# Altium schematic symbol library dungvh03-CERN_Logic.SchLib: 486 symbols (part 26 of 54)
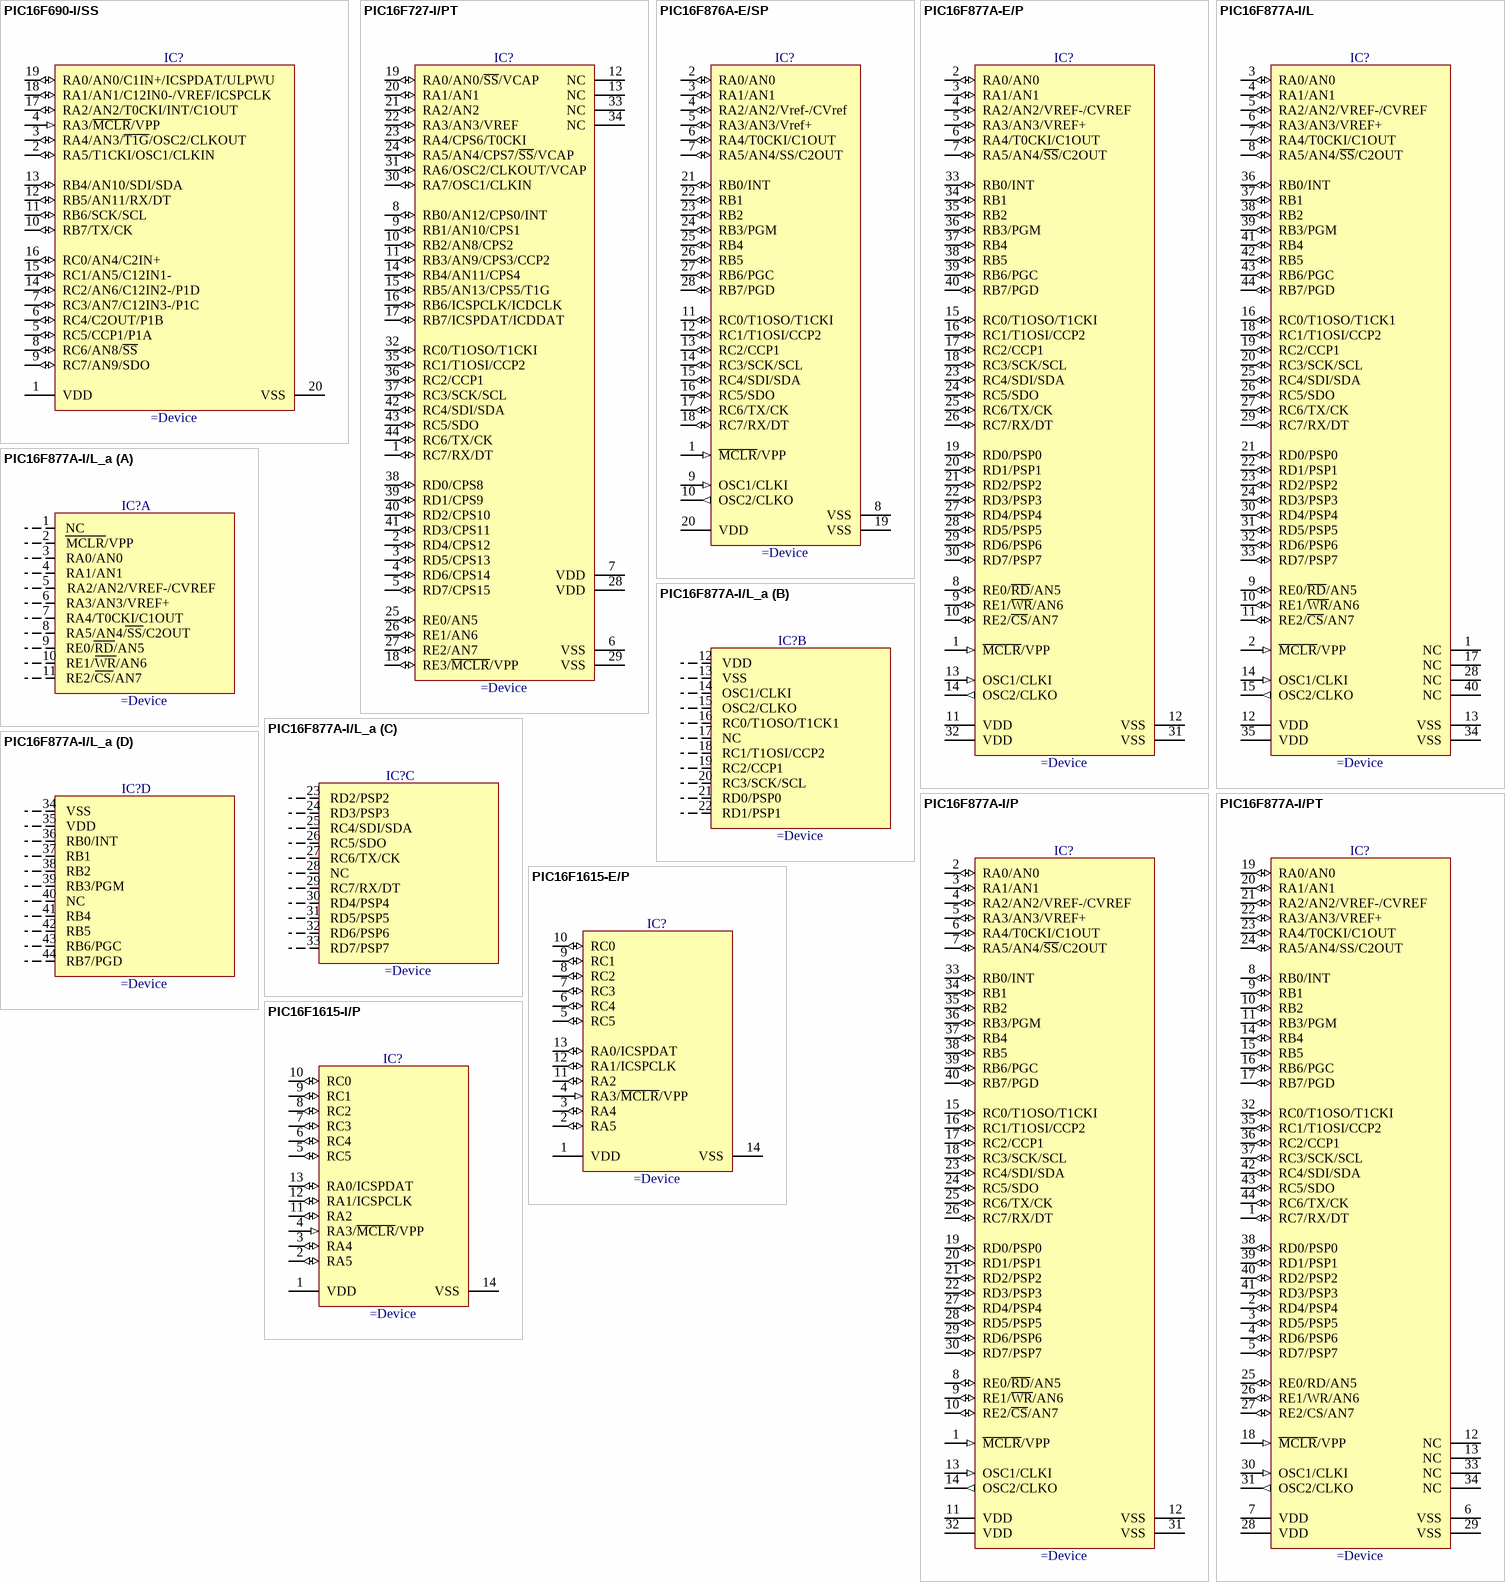
[diagram p286: symbols PIC16F690-I/SS to PIC16F1615-I/P]

## PIC16F877A-I/PT
designator IC?
44-Pin Enhanced Flash Microcontroller
pins: 1 RC7/RX/DT (io), 2 RD4/PSP4 (io), 3 RD5/PSP5 (io), 4 RD6/PSP6 (io), 5 RD7/PSP7 (io), 6 VSS (power), 7 VDD (power), 8 RB0/INT (io), 9 RB1 (io), 10 RB2 (io), 11 RB3/PGM (io), 12 NC, 13 NC, 14 RB4 (io), 15 RB5 (io), 16 RB6/PGC (io), 17 RB7/PGD (io), 18 ~{MCLR}/VPP (in), 19 RA0/AN0 (io), 20 RA1/AN1 (io), 21 RA2/AN2/VREF-/CVREF (io), 22 RA3/AN3/VREF+ (io), 23 RA4/T0CKI/C1OUT (io), 24 RA5/AN4/SS/C2OUT (io), 25 RE0/RD/AN5 (io), 26 RE1/WR/AN6 (io), 27 RE2/CS/AN7 (io), 28 VDD (power), 29 VSS (power), 30 OSC1/CLKI (in), 31 OSC2/CLKO (out), 32 RC0/T1OSO/T1CKI (io), 33 NC, 34 NC, 35 RC1/T1OSI/CCP2 (io), 36 RC2/CCP1 (io), 37 RC3/SCK/SCL (io), 38 RD0/PSP0 (io), 39 RD1/PSP1 (io), 40 RD2/PSP2 (io), 41 RD3/PSP3 (io), 42 RC4/SDI/SDA (io), 43 RC5/SDO (io), 44 RC6/TX/CK (io)

## PIC16F1615-E/P
designator IC?
14 Pins 8-Bit Flash Microcontroller
pins: 1 VDD (power), 2 RA5 (io), 3 RA4 (io), 4 RA3/~{MCLR}/VPP (in), 5 RC5 (io), 6 RC4 (io), 7 RC3 (io), 8 RC2 (io), 9 RC1 (io), 10 RC0 (io), 11 RA2 (io), 12 RA1/ICSPCLK (io), 13 RA0/ICSPDAT (io), 14 VSS (power)

## PIC16F1615-I/P
designator IC?
14 Pins 8-Bit Flash Microcontroller
pins: 1 VDD (power), 2 RA5 (io), 3 RA4 (io), 4 RA3/~{MCLR}/VPP (in), 5 RC5 (io), 6 RC4 (io), 7 RC3 (io), 8 RC2 (io), 9 RC1 (io), 10 RC0 (io), 11 RA2 (io), 12 RA1/ICSPCLK (io), 13 RA0/ICSPDAT (io), 14 VSS (power)

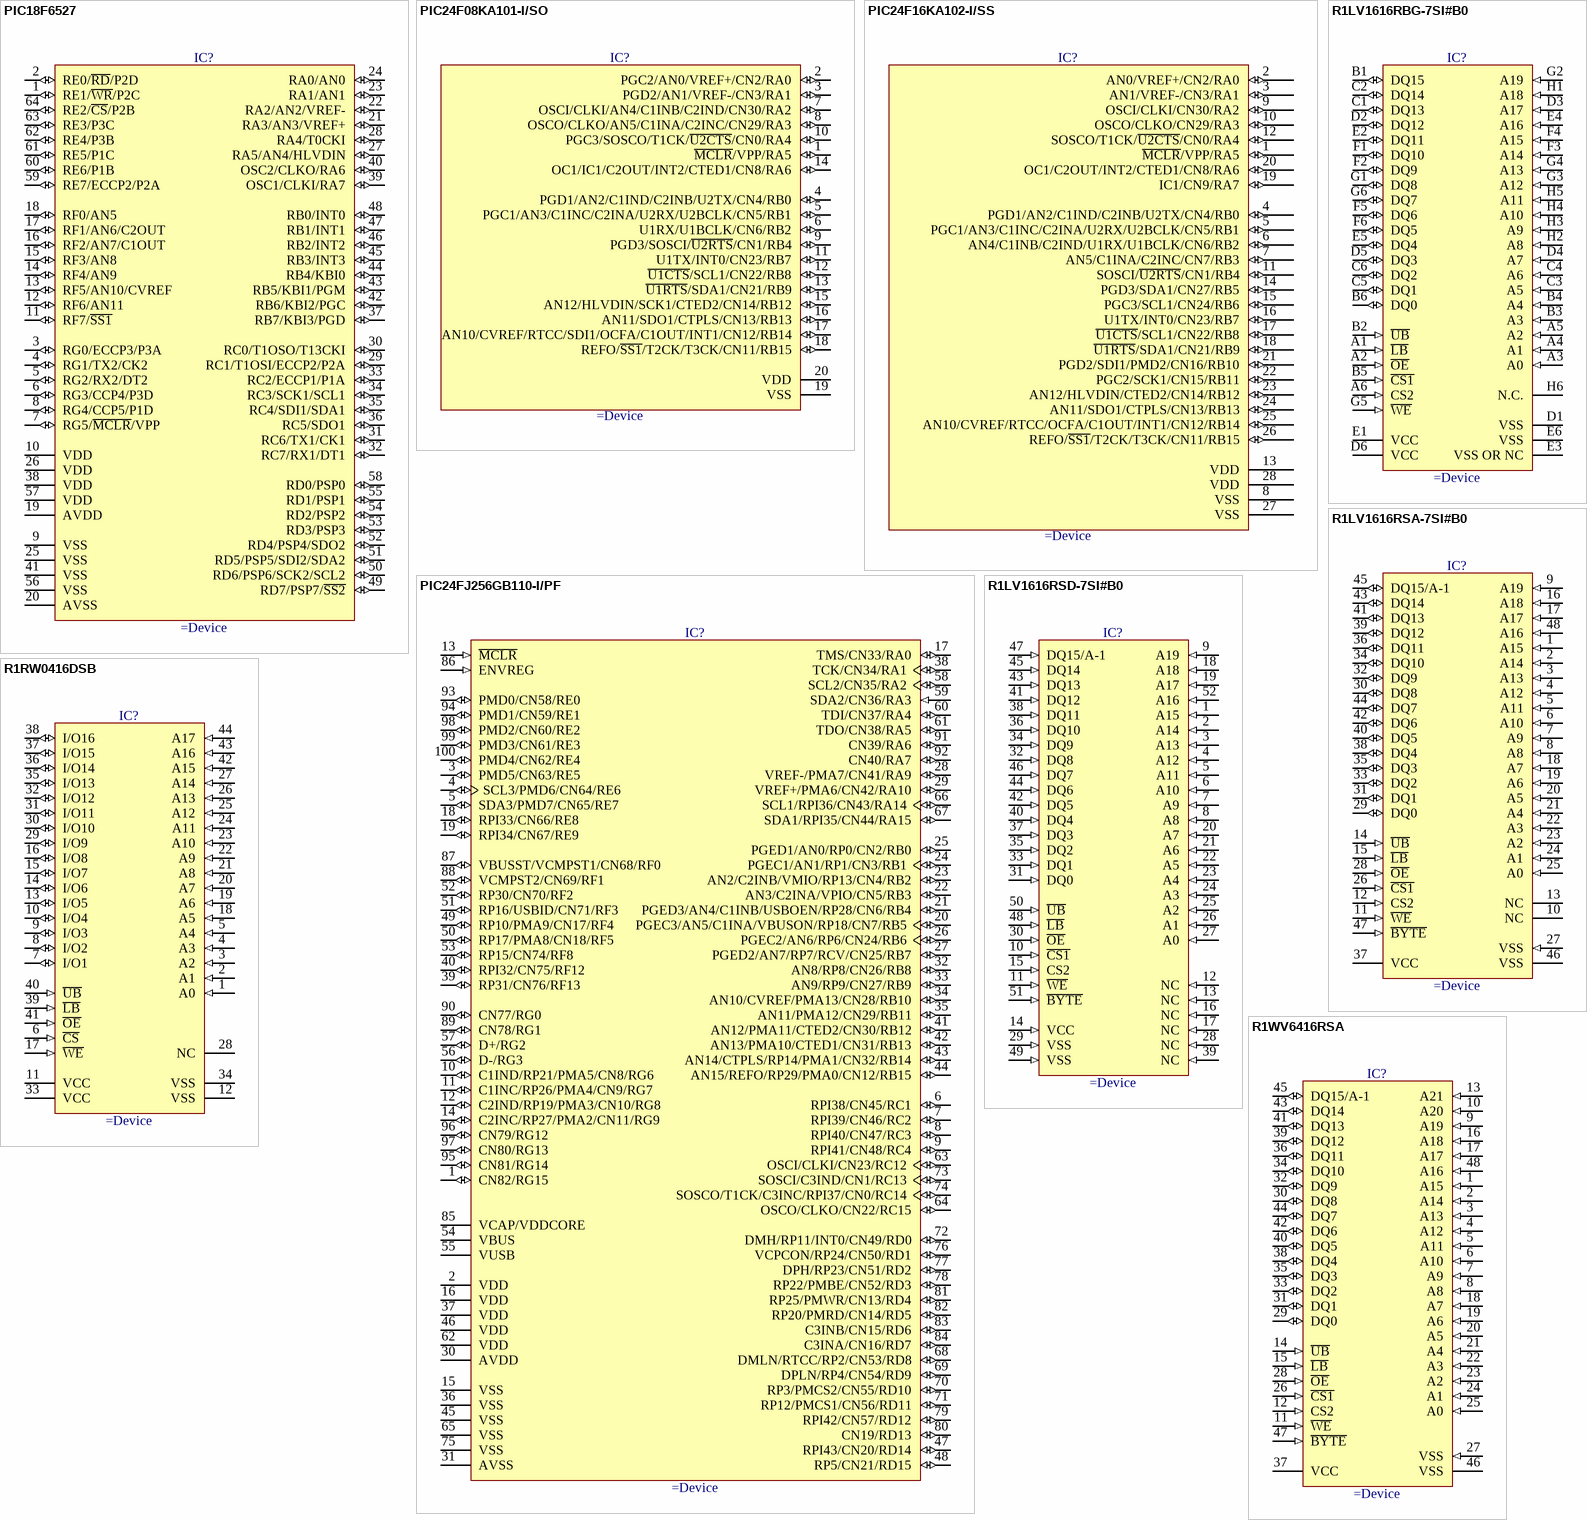
[diagram p114: symbols PIC18F6527 to R1WV6416RSA]

## PIC18F6527
designator IC?
1-Mbit, Enhanced Flash Microcontrollers with 10-Bit A/D and nanoWatt Technology, 64-Pin TQFP (10x10x1.2mm), Industrial Temperature
pins: 1 RE1/~{WR}/P2C (io), 2 RE0/~{RD}/P2D (io), 3 RG0/ECCP3/P3A (io), 4 RG1/TX2/CK2 (io), 5 RG2/RX2/DT2 (io), 6 RG3/CCP4/P3D (io), 7 RG5/~{MCLR}/VPP (io), 8 RG4/CCP5/P1D (io), 9 VSS (power), 10 VDD (power), 11 RF7/~{SS1} (io), 12 RF6/AN11 (io), 13 RF5/AN10/CVREF (io), 14 RF4/AN9 (io), 15 RF3/AN8 (io), 16 RF2/AN7/C1OUT (io), 17 RF1/AN6/C2OUT (io), 18 RF0/AN5 (io), 19 AVDD (power), 20 AVSS (power), 21 RA3/AN3/VREF+ (io), 22 RA2/AN2/VREF- (io), 23 RA1/AN1 (io), 24 RA0/AN0 (io), 25 VSS (power), 26 VDD (power), 27 RA5/AN4/HLVDIN (io), 28 RA4/T0CKI (io), 29 RC1/T1OSI/ECCP2/P2A (io), 30 RC0/T1OSO/T13CKI (io), 31 RC6/TX1/CK1 (io), 32 RC7/RX1/DT1 (io), 33 RC2/ECCP1/P1A (io), 34 RC3/SCK1/SCL1 (io), 35 RC4/SDI1/SDA1 (io), 36 RC5/SDO1 (io), 37 RB7/KBI3/PGD (io), 38 VDD (power), 39 OSC1/CLKI/RA7 (io), 40 OSC2/CLKO/RA6 (io), 41 VSS (power), 42 RB6/KBI2/PGC (io), 43 RB5/KBI1/PGM (io), 44 RB4/KBI0 (io), 45 RB3/INT3 (io), 46 RB2/INT2 (io), 47 RB1/INT1 (io), 48 RB0/INT0 (io), 49 RD7/PSP7/~{SS2} (io), 50 RD6/PSP6/SCK2/SCL2 (io), 51 RD5/PSP5/SDI2/SDA2 (io), 52 RD4/PSP4/SDO2 (io), 53 RD3/PSP3 (io), 54 RD2/PSP2 (io), 55 RD1/PSP1 (io), 56 VSS (power), 57 VDD (power), 58 RD0/PSP0 (io), 59 RE7/ECCP2/P2A (io), 60 RE6/P1B (io), 61 RE5/P1C (io), 62 RE4/P3B (io), 63 RE3/P3C (io), 64 RE2/~{CS}/P2B (io)

## PIC24F08KA101-I/SO
designator IC?
16-Bit Flash Microcontroller with nanoWatt XLP Technology, 8KB Flash, 1.5KB SRAM, 20-Pin SOIC, Industrial Temperature
pins: 1 ~{MCLR}/VPP/RA5 (io), 2 PGC2/AN0/VREF+/CN2/RA0 (io), 3 PGD2/AN1/VREF-/CN3/RA1 (io), 4 PGD1/AN2/C1IND/C2INB/U2TX/CN4/RB0 (io), 5 PGC1/AN3/C1INC/C2INA/U2RX/U2BCLK/CN5/RB1 (io), 6 U1RX/U1BCLK/CN6/RB2 (io), 7 OSCI/CLKI/AN4/C1INB/C2IND/CN30/RA2 (io), 8 OSCO/CLKO/AN5/C1INA/C2INC/CN29/RA3 (io), 9 PGD3/SOSCI/~{U2RTS}/CN1/RB4 (io), 10 PGC3/SOSCO/T1CK/~{U2CTS}/CN0/RA4 (io), 11 U1TX/INT0/CN23/RB7 (io), 12 ~{U1CTS}/SCL1/CN22/RB8 (io), 13 ~{U1RTS}/SDA1/CN21/RB9 (io), 14 OC1/IC1/C2OUT/INT2/CTED1/CN8/RA6 (io), 15 AN12/HLVDIN/SCK1/CTED2/CN14/RB12 (io), 16 AN11/SDO1/CTPLS/CN13/RB13 (io), 17 AN10/CVREF/RTCC/SDI1/OCFA/C1OUT/INT1/CN12/RB14 (io), 18 REFO/~{SS1}/T2CK/T3CK/CN11/RB15 (io), 19 VSS (power), 20 VDD (power)

## PIC24F16KA102-I/SS
designator IC?
16-Bit Flash Microcontroller with nanoWatt XLP Technology, 16KB Flash, 1.5KB SRAM, 28-Pin SSOP, Industrial Temperature
pins: 1 ~{MCLR}/VPP/RA5 (io), 2 AN0/VREF+/CN2/RA0 (io), 3 AN1/VREF-/CN3/RA1 (io), 4 PGD1/AN2/C1IND/C2INB/U2TX/CN4/RB0 (io), 5 PGC1/AN3/C1INC/C2INA/U2RX/U2BCLK/CN5/RB1 (io), 6 AN4/C1INB/C2IND/U1RX/U1BCLK/CN6/RB2 (io), 7 AN5/C1INA/C2INC/CN7/RB3 (io), 8 VSS (power), 9 OSCI/CLKI/CN30/RA2 (io), 10 OSCO/CLKO/CN29/RA3 (io), 11 SOSCI/~{U2RTS}/CN1/RB4 (io), 12 SOSCO/T1CK/~{U2CTS}/CN0/RA4 (io), 13 VDD (power), 14 PGD3/SDA1/CN27/RB5 (io), 15 PGC3/SCL1/CN24/RB6 (io), 16 U1TX/INT0/CN23/RB7 (io), 17 ~{U1CTS}/SCL1/CN22/RB8 (io), 18 ~{U1RTS}/SDA1/CN21/RB9 (io), 19 IC1/CN9/RA7 (io), 20 OC1/C2OUT/INT2/CTED1/CN8/RA6 (io), 21 PGD2/SDI1/PMD2/CN16/RB10 (io), 22 PGC2/SCK1/CN15/RB11 (io), 23 AN12/HLVDIN/CTED2/CN14/RB12 (io), 24 AN11/SDO1/CTPLS/CN13/RB13 (io), 25 AN10/CVREF/RTCC/OCFA/C1OUT/INT1/CN12/RB14 (io), 26 REFO/~{SS1}/T2CK/T3CK/CN11/RB15 (io), 27 VSS (power), 28 VDD (power)

## PIC24FJ256GB110-I/PF
designator IC?
General Purpose 16-Bit Flash Microcontroller with USB On-The-Go, 256KB Flash, 16KB SRAM, 100-Pin TQFP (14x14x1 mm), Industrial Temperature
pins: 1 CN82/RG15 (io), 2 VDD (power), 3 PMD5/CN63/RE5 (io), 4 SCL3/PMD6/CN64/RE6 (io), 5 SDA3/PMD7/CN65/RE7 (io), 6 RPI38/CN45/RC1 (io), 7 RPI39/CN46/RC2 (io), 8 RPI40/CN47/RC3 (io), 9 RPI41/CN48/RC4 (io), 10 C1IND/RP21/PMA5/CN8/RG6 (io), 11 C1INC/RP26/PMA4/CN9/RG7 (io), 12 C2IND/RP19/PMA3/CN10/RG8 (io), 13 ~{MCLR} (in), 14 C2INC/RP27/PMA2/CN11/RG9 (io), 15 VSS (power), 16 VDD (power), 17 TMS/CN33/RA0 (io), 18 RPI33/CN66/RE8 (io), 19 RPI34/CN67/RE9 (io), 20 PGEC3/AN5/C1INA/VBUSON/RP18/CN7/RB5 (io), 21 PGED3/AN4/C1INB/USBOEN/RP28/CN6/RB4 (io), 22 AN3/C2INA/VPIO/CN5/RB3 (io), 23 AN2/C2INB/VMIO/RP13/CN4/RB2 (io), 24 PGEC1/AN1/RP1/CN3/RB1 (io), 25 PGED1/AN0/RP0/CN2/RB0 (io), 26 PGEC2/AN6/RP6/CN24/RB6 (io), 27 PGED2/AN7/RP7/RCV/CN25/RB7 (io), 28 VREF-/PMA7/CN41/RA9 (io), 29 VREF+/PMA6/CN42/RA10 (io), 30 AVDD (power), 31 AVSS (power), 32 AN8/RP8/CN26/RB8 (io), 33 AN9/RP9/CN27/RB9 (io), 34 AN10/CVREF/PMA13/CN28/RB10 (io), 35 AN11/PMA12/CN29/RB11 (io), 36 VSS (power), 37 VDD (power), 38 TCK/CN34/RA1 (io), 39 RP31/CN76/RF13 (io), 40 RPI32/CN75/RF12 (io), 41 AN12/PMA11/CTED2/CN30/RB12 (io), 42 AN13/PMA10/CTED1/CN31/RB13 (io), 43 AN14/CTPLS/RP14/PMA1/CN32/RB14 (io), 44 AN15/REFO/RP29/PMA0/CN12/RB15 (io), 45 VSS (power), 46 VDD (power), 47 RPI43/CN20/RD14 (io), 48 RP5/CN21/RD15 (io), 49 RP10/PMA9/CN17/RF4 (io), 50 RP17/PMA8/CN18/RF5 (io), 51 RP16/USBID/CN71/RF3 (io), 52 RP30/CN70/RF2 (io), 53 RP15/CN74/RF8 (io), 54 VBUS (power), 55 VUSB (power), 56 D-/RG3 (io), 57 D+/RG2 (io), 58 SCL2/CN35/RA2 (io), 59 SDA2/CN36/RA3 (in), 60 TDI/CN37/RA4 (io), 61 TDO/CN38/RA5 (io), 62 VDD (power), 63 OSCI/CLKI/CN23/RC12 (io), 64 OSCO/CLKO/CN22/RC15 (io), 65 VSS (power), 66 SCL1/RPI36/CN43/RA14 (io), 67 SDA1/RPI35/CN44/RA15 (io), 68 DMLN/RTCC/RP2/CN53/RD8 (io), 69 DPLN/RP4/CN54/RD9 (io), 70 RP3/PMCS2/CN55/RD10 (io), 71 RP12/PMCS1/CN56/RD11 (io), 72 DMH/RP11/INT0/CN49/RD0 (io), 73 SOSCI/C3IND/CN1/RC13 (io), 74 SOSCO/T1CK/C3INC/RPI37/CN0/RC14 (io), 75 VSS (power), 76 VCPCON/RP24/CN50/RD1 (io), 77 DPH/RP23/CN51/RD2 (io), 78 RP22/PMBE/CN52/RD3 (io), 79 RPI42/CN57/RD12 (io), 80 CN19/RD13 (io), 81 RP25/PMWR/CN13/RD4 (io), 82 RP20/PMRD/CN14/RD5 (io), 83 C3INB/CN15/RD6 (io), 84 C3INA/CN16/RD7 (io), 85 VCAP/VDDCORE (power), 86 ENVREG (in), 87 VBUSST/VCMPST1/CN68/RF0 (io), 88 VCMPST2/CN69/RF1 (io), 89 CN78/RG1 (io), 90 CN77/RG0 (io), 91 CN39/RA6 (io), 92 CN40/RA7 (io), 93 PMD0/CN58/RE0 (io), 94 PMD1/CN59/RE1 (io), 95 CN81/RG14 (io), 96 CN79/RG12 (io), 97 CN80/RG13 (io), 98 PMD2/CN60/RE2 (io), 99 PMD3/CN61/RE3 (io), 100 PMD4/CN62/RE4 (io)

## R1LV1616RBG-7SI#B0
designator IC?
16Mb Advanced LPSRAM (1M Word x 16bit / 2M Wordx8bit)
pins: A1 ~{LB} (in), A2 ~{OE} (in), A3 A0 (in), A4 A1 (in), A5 A2 (in), A6 CS2 (in), B1 DQ15 (io), B2 ~{UB} (in), B3 A3 (in), B4 A4 (in), B5 ~{CS1} (in), B6 DQ0 (io), C1 DQ13 (io), C2 DQ14 (io), C3 A5 (in), C4 A6 (in), C5 DQ1 (io), C6 DQ2 (io), D1 VSS (power), D2 DQ12 (io), D3 A17 (in), D4 A7 (in), D5 DQ3 (io), D6 VCC (power), E1 VCC (power), E2 DQ11 (io), E3  VSS OR NC (power), E4 A16 (in), E5 DQ4 (io), E6 VSS (power), F1 DQ10 (io), F2 DQ9 (io), F3 A14 (in), F4 A15 (in), F5 DQ6 (io), F6 DQ5 (io), G1 DQ8 (io), G2 A19 (in), G3 A12 (in), G4 A13 (in), G5 ~{WE} (in), G6 DQ7 (io), H1 A18 (in), H2 A8 (in), H3 A9 (in), H4 A10 (in), H5 A11 (in), H6 N.C.

## R1LV1616RSA-7SI#B0
designator IC?
16Mb Advanced LPSRAM (1M Word x 16bit / 2M Wordx8bit)
pins: 1 A15 (in), 2 A14 (in), 3 A13 (in), 4 A12 (in), 5 A11 (in), 6 A10 (in), 7 A9 (in), 8 A8 (in), 9 A19 (in), 10 NC, 11 ~{WE} (in), 12 CS2 (in), 13 NC, 14 ~{UB} (in), 15 ~{LB} (in), 16 A18 (in), 17 A17 (in), 18 A7 (in), 19 A6 (in), 20 A5 (in), 21 A4 (in), 22 A3 (in), 23 A2 (in), 24 A1 (in), 25 A0 (in), 26 ~{CS1} (in), 27 VSS (in), 28 ~{OE} (in), 29 DQ0 (io), 30 DQ8 (io), 31 DQ1 (io), 32 DQ9 (io), 33 DQ2 (io), 34 DQ10 (io), 35 DQ3 (io), 36 DQ11 (io), 37 VCC (power), 38 DQ4 (io), 39 DQ12 (io), 40 DQ5 (io), 41 DQ13 (io), 42 DQ6 (io), 43 DQ14 (io), 44 DQ7 (io), 45 DQ15/A-1 (io), 46 VSS (power), 47 ~{BYTE} (in), 48 A16 (in)

## R1LV1616RSD-7SI#B0
designator IC?
16Mb Advanced LPSRAM (1M Word x 16bit / 2M Wordx8bit)
pins: 1 A15 (in), 2 A14 (in), 3 A13 (in), 4 A12 (in), 5 A11 (in), 6 A10 (in), 7 A9 (in), 8 A8 (in), 9 A19 (in), 10 ~{CS1} (in), 11 ~{WE} (in), 12 NC (in), 13 NC (in), 14 VCC (in), 15 CS2 (in), 16 NC (in), 17 NC (in), 18 A18 (in), 19 A17 (in), 20 A7 (in), 21 A6 (in), 22 A5 (in), 23 A4 (in), 24 A3 (in), 25 A2 (in), 26 A1 (in), 27 A0 (in), 28 NC (in), 29 VSS (in), 30 ~{OE} (in), 31 DQ0 (in), 32 DQ8 (in), 33 DQ1 (in), 34 DQ9 (in), 35 DQ2 (in), 36 DQ10 (in), 37 DQ3 (in), 38 DQ11 (in), 39 NC (in), 40 DQ4 (in), 41 DQ12 (in), 42 DQ5 (in), 43 DQ13 (in), 44 DQ6 (in), 45 DQ14 (in), 46 DQ7 (in), 47 DQ15/A-1 (in), 48 ~{LB} (in), 49 VSS (in), 50 ~{UB} (in), 51 ~{BYTE} (in), 52 A16 (in)

## R1RW0416DSB
designator IC?
4M High Speed SRAM (256-kword × 16-Bit)
pins: 1 A0 (in), 2 A1 (in), 3 A2 (in), 4 A3 (in), 5 A4 (in), 6 ~{CS} (in), 7 I/O1 (io), 8 I/O2 (io), 9 I/O3 (io), 10 I/O4 (io), 11 VCC (power), 12 VSS (power), 13 I/O5 (io), 14 I/O6 (io), 15 I/O7 (io), 16 I/O8 (io), 17 ~{WE} (in), 18 A5 (in), 19 A6 (in), 20 A7 (in), 21 A8 (in), 22 A9 (in), 23 A10 (in), 24 A11 (in), 25 A12 (in), 26 A13 (in), 27 A14 (in), 28 NC, 29 I/O9 (io), 30 I/O10 (io), 31 I/O11 (io), 32 I/O12 (io), 33 VCC (power), 34 VSS (power), 35 I/O13 (io), 36 I/O14 (io), 37 I/O15 (io), 38 I/O16 (io), 39 ~{LB} (in), 40 ~{UB} (in), 41 ~{OE} (in), 42 A15 (in), 43 A16 (in), 44 A17 (in)

## R1WV6416RSA
designator IC?
64M Advanced LPSRAM (4M word x 16bit / 8M word x 8bit)
pins: 1 A15 (in), 2 A14 (in), 3 A13 (in), 4 A12 (in), 5 A11 (in), 6 A10 (in), 7 A9 (in), 8 A8 (in), 9 A19 (in), 10 A20 (in), 11 ~{WE} (in), 12 CS2 (in), 13 A21 (in), 14 ~{UB} (in), 15 ~{LB} (in), 16 A18 (in), 17 A17 (in), 18 A7 (in), 19 A6 (in), 20 A5 (in), 21 A4 (in), 22 A3 (in), 23 A2 (in), 24 A1 (in), 25 A0 (in), 26 ~{CS1} (in), 27 VSS (in), 28 ~{OE} (in), 29 DQ0 (io), 30 DQ8 (io), 31 DQ1 (io), 32 DQ9 (io), 33 DQ2 (io), 34 DQ10 (io), 35 DQ3 (io), 36 DQ11 (io), 37 VCC (power), 38 DQ4 (io), 39 DQ12 (io), 40 DQ5 (io), 41 DQ13 (io), 42 DQ6 (io), 43 DQ14 (io), 44 DQ7 (io), 45 DQ15/A-1 (io), 46 VSS (power), 47 ~{BYTE} (in), 48 A16 (in)

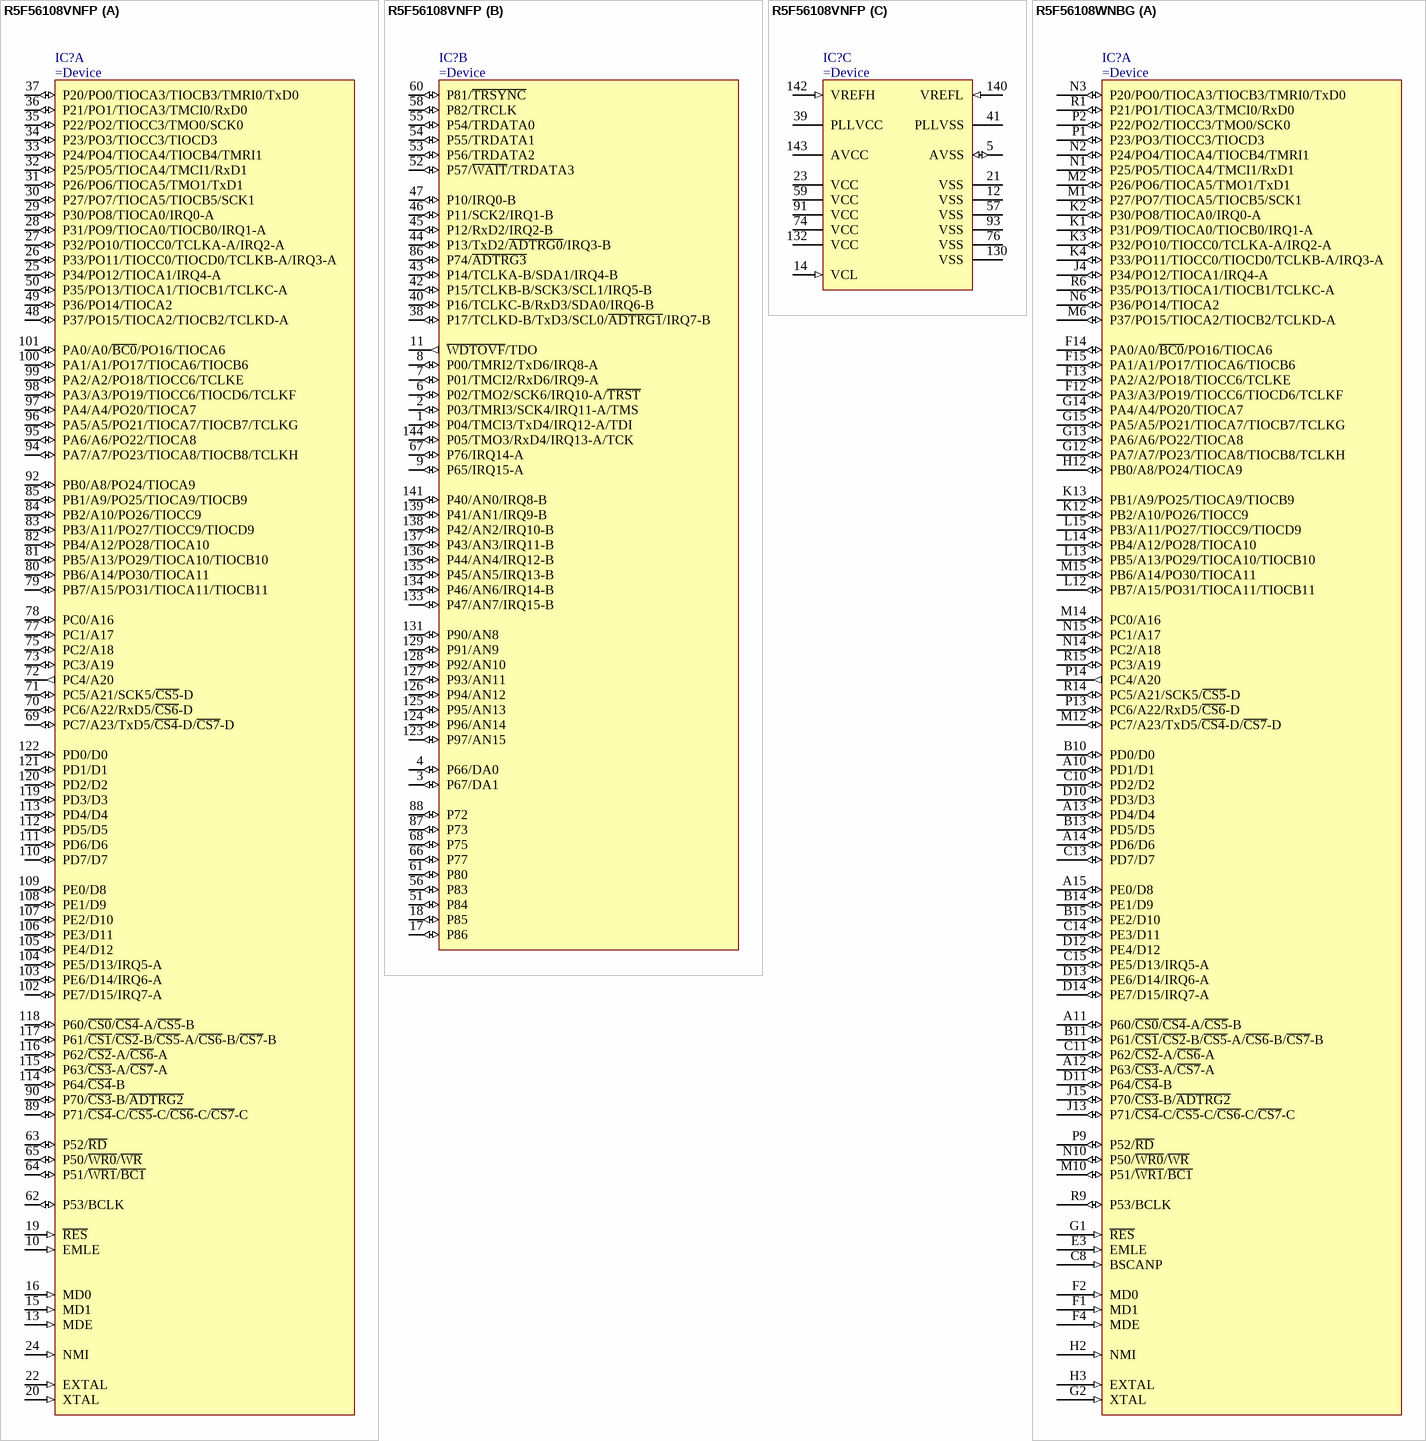
[diagram p115: symbols R5F56108VNFP to R5F56108WNBG]

## R5F56108VNFP
designator IC?
64-Bit, 2M ROM, 128K RAM, 32K Flash, 3V Microcontroller
part A pins: 10 EMLE (in), 13 MDE (in), 15 MD1 (in), 16 MD0 (in), 19 ~{RES} (in), 20 XTAL (in), 22 EXTAL (in), 24 NMI (in), 25 P34/PO12/TIOCA1/IRQ4-A (io), 26 P33/PO11/TIOCC0/TIOCD0/TCLKB-A/IRQ3-A (io), 27 P32/PO10/TIOCC0/TCLKA-A/IRQ2-A (io), 28 P31/PO9/TIOCA0/TIOCB0/IRQ1-A (io), 29 P30/PO8/TIOCA0/IRQ0-A (io), 30 P27/PO7/TIOCA5/TIOCB5/SCK1 (io), 31 P26/PO6/TIOCA5/TMO1/TxD1 (io), 32 P25/PO5/TIOCA4/TMCI1/RxD1 (io), 33 P24/PO4/TIOCA4/TIOCB4/TMRI1 (io), 34 P23/PO3/TIOCC3/TIOCD3 (io), 35 P22/PO2/TIOCC3/TMO0/SCK0 (io), 36 P21/PO1/TIOCA3/TMCI0/RxD0 (io), 37 P20/PO0/TIOCA3/TIOCB3/TMRI0/TxD0 (io), 48 P37/PO15/TIOCA2/TIOCB2/TCLKD-A (io), 49 P36/PO14/TIOCA2 (io), 50 P35/PO13/TIOCA1/TIOCB1/TCLKC-A (io), 62 P53/BCLK (io), 63 P52/~{RD} (io), 64 P51/~{WR1}/~{BC1} (io), 65 P50/~{WR0}/~{WR} (io), 69 PC7/A23/TxD5/~{CS4}-D/~{CS7}-D (io), 70 PC6/A22/RxD5/~{CS6}-D (io), 71 PC5/A21/SCK5/~{CS5}-D (io), 72 PC4/A20 (out), 73 PC3/A19 (io), 75 PC2/A18 (io), 77 PC1/A17 (io), 78 PC0/A16 (io), 79 PB7/A15/PO31/TIOCA11/TIOCB11 (io), 80 PB6/A14/PO30/TIOCA11 (io), 81 PB5/A13/PO29/TIOCA10/TIOCB10 (io), 82 PB4/A12/PO28/TIOCA10 (io), 83 PB3/A11/PO27/TIOCC9/TIOCD9 (io), 84 PB2/A10/PO26/TIOCC9 (io), 85 PB1/A9/PO25/TIOCA9/TIOCB9 (io), 89 P71/~{CS4}-C/~{CS5}-C/~{CS6}-C/~{CS7}-C (io), 90 P70/~{CS3}-B/~{ADTRG2} (io), 92 PB0/A8/PO24/TIOCA9 (io), 94 PA7/A7/PO23/TIOCA8/TIOCB8/TCLKH (io), 95 PA6/A6/PO22/TIOCA8 (io), 96 PA5/A5/PO21/TIOCA7/TIOCB7/TCLKG (io), 97 PA4/A4/PO20/TIOCA7 (io), 98 PA3/A3/PO19/TIOCC6/TIOCD6/TCLKF (io), 99 PA2/A2/PO18/TIOCC6/TCLKE (io), 100 PA1/A1/PO17/TIOCA6/TIOCB6 (io), 101 PA0/A0/~{BC0}/PO16/TIOCA6 (io), 102 PE7/D15/IRQ7-A (io), 103 PE6/D14/IRQ6-A (io), 104 PE5/D13/IRQ5-A (io), 105 PE4/D12 (io), 106 PE3/D11 (io), 107 PE2/D10 (io), 108 PE1/D9 (io), 109 PE0/D8 (io), 110 PD7/D7 (io), 111 PD6/D6 (io), 112 PD5/D5 (io), 113 PD4/D4 (io), 114 P64/~{CS4}-B (io), 115 P63/~{CS3}-A/~{CS7}-A (io), 116 P62/~{CS2}-A/~{CS6}-A (io), 117 P61/~{CS1}/~{CS2}-B/~{CS5}-A/~{CS6}-B/~{CS7}-B (io), 118 P60/~{CS0}/~{CS4}-A/~{CS5}-B (io), 119 PD3/D3 (io), 120 PD2/D2 (io), 121 PD1/D1 (io), 122 PD0/D0 (io)
part B pins: 1 P04/TMCI3/TxD4/IRQ12-A/TDI (io), 2 P03/TMRI3/SCK4/IRQ11-A/TMS (io), 3 P67/DA1 (io), 4 P66/DA0 (io), 6 P02/TMO2/SCK6/IRQ10-A/~{TRST} (io), 7 P01/TMCI2/RxD6/IRQ9-A (io), 8 P00/TMRI2/TxD6/IRQ8-A (io), 9 P65/IRQ15-A (io), 11 ~{WDTOVF}/TDO (out), 17 P86 (io), 18 P85 (io), 38 P17/TCLKD-B/TxD3/SCL0/~{ADTRG1}/IRQ7-B (io), 40 P16/TCLKC-B/RxD3/SDA0/IRQ6-B (io), 42 P15/TCLKB-B/SCK3/SCL1/IRQ5-B (io), 43 P14/TCLKA-B/SDA1/IRQ4-B (io), 44 P13/TxD2/~{ADTRG0}/IRQ3-B (io), 45 P12/RxD2/IRQ2-B (io), 46 P11/SCK2/IRQ1-B (io), 47 P10/IRQ0-B (io), 51 P84 (io), 52 P57/~{WAIT}/TRDATA3 (io), 53 P56/TRDATA2 (io), 54 P55/TRDATA1 (io), 55 P54/TRDATA0 (io), 56 P83 (io), 58 P82/TRCLK (io), 60 P81/~{TRSYNC} (io), 61 P80 (io), 66 P77 (io), 67 P76/IRQ14-A (io), 68 P75 (io), 86 P74/~{ADTRG3} (io), 87 P73 (io), 88 P72 (io), 123 P97/AN15 (io), 124 P96/AN14 (io), 125 P95/AN13 (io), 126 P94/AN12 (io), 127 P93/AN11 (io), 128 P92/AN10 (io), 129 P91/AN9 (io), 131 P90/AN8 (io), 133 P47/AN7/IRQ15-B (io), 134 P46/AN6/IRQ14-B (io), 135 P45/AN5/IRQ13-B (io), 136 P44/AN4/IRQ12-B (io), 137 P43/AN3/IRQ11-B (io), 138 P42/AN2/IRQ10-B (io), 139 P41/AN1/IRQ9-B (io), 141 P40/AN0/IRQ8-B (io), 144 P05/TMO3/RxD4/IRQ13-A/TCK (io)
part C pins: 5 AVSS (io), 12 VSS (power), 14 VCL (in), 21 VSS (power), 23 VCC (power), 39 PLLVCC (power), 41 PLLVSS (power), 57 VSS (power), 59 VCC (power), 74 VCC (power), 76 VSS (power), 91 VCC (power), 93 VSS (power), 130 VSS (power), 132 VCC (power), 140 VREFL (in), 142 VREFH (in), 143 AVCC (power)

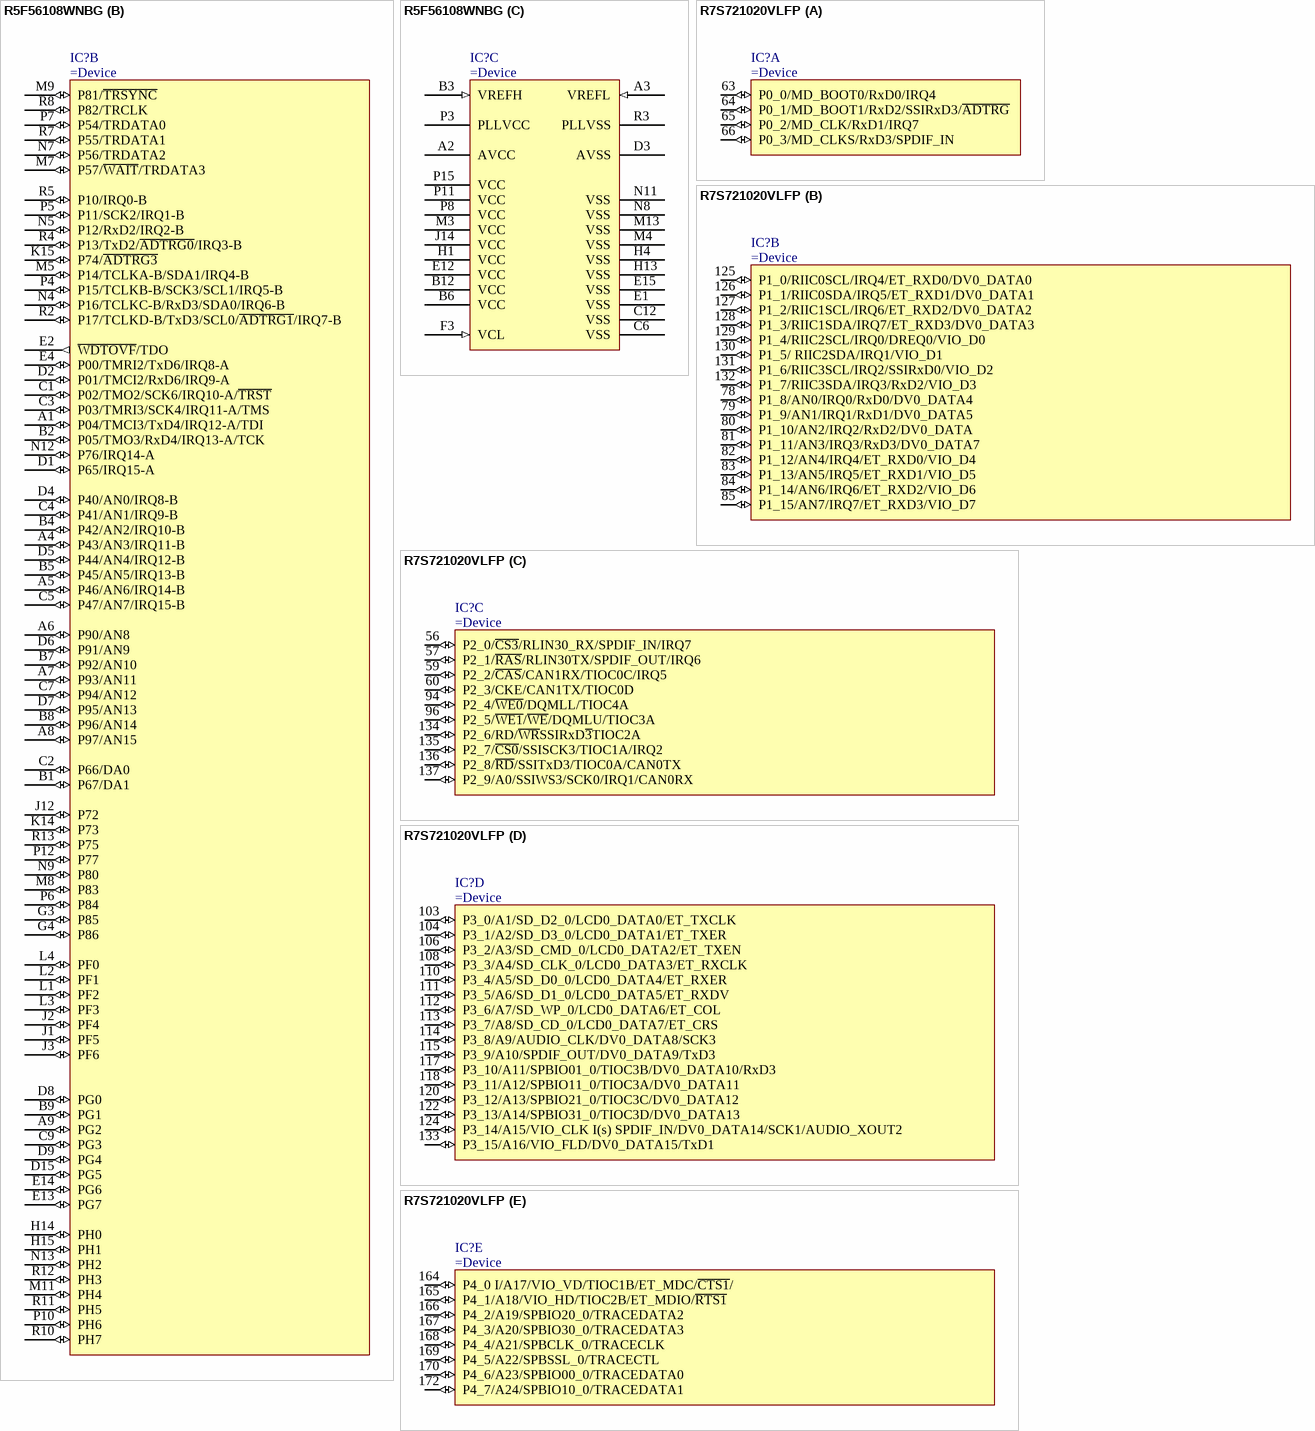
[diagram p116: symbols R5F56108WNBG to R7S721020VLFP]

## R5F56108WNBG
designator IC?
64-Bit, 2M ROM, 128K RAM, 32K Flash, 3V Microcontroller
part A pins: A10 PD1/D1 (io), A11 P60/~{CS0}/~{CS4}-A/~{CS5}-B (io), A12 P63/~{CS3}-A/~{CS7}-A (io), A13 PD4/D4 (io), A14 PD6/D6 (io), A15 PE0/D8 (io), B10 PD0/D0 (io), B11 P61/~{CS1}/~{CS2}-B/~{CS5}-A/~{CS6}-B/~{CS7}-B (io), B13 PD5/D5 (io), B14 PE1/D9 (io), B15 PE2/D10 (io), C8 BSCANP (in), C10 PD2/D2 (io), C11 P62/~{CS2}-A/~{CS6}-A (io), C13 PD7/D7 (io), C14 PE3/D11 (io), C15 PE5/D13/IRQ5-A (io), D10 PD3/D3 (io), D11 P64/~{CS4}-B (io), D12 PE4/D12 (io), D13 PE6/D14/IRQ6-A (io), D14 PE7/D15/IRQ7-A (io), E3 EMLE (in), F1 MD1 (in), F2 MD0 (in), F4 MDE (in), F12 PA3/A3/PO19/TIOCC6/TIOCD6/TCLKF (io), F13 PA2/A2/PO18/TIOCC6/TCLKE (io), F14 PA0/A0/~{BC0}/PO16/TIOCA6 (io), F15 PA1/A1/PO17/TIOCA6/TIOCB6 (io), G1 ~{RES} (in), G2 XTAL (in), G12 PA7/A7/PO23/TIOCA8/TIOCB8/TCLKH (io), G13 PA6/A6/PO22/TIOCA8 (io), G14 PA4/A4/PO20/TIOCA7 (io), G15 PA5/A5/PO21/TIOCA7/TIOCB7/TCLKG (io), H2 NMI (in), H3 EXTAL (in), H12 PB0/A8/PO24/TIOCA9 (io), J4 P34/PO12/TIOCA1/IRQ4-A (io), J13 P71/~{CS4}-C/~{CS5}-C/~{CS6}-C/~{CS7}-C (io), J15 P70/~{CS3}-B/~{ADTRG2} (io), K1 P31/PO9/TIOCA0/TIOCB0/IRQ1-A (io), K2 P30/PO8/TIOCA0/IRQ0-A (io), K3 P32/PO10/TIOCC0/TCLKA-A/IRQ2-A (io), K4 P33/PO11/TIOCC0/TIOCD0/TCLKB-A/IRQ3-A (io), K12 PB2/A10/PO26/TIOCC9 (io), K13 PB1/A9/PO25/TIOCA9/TIOCB9 (io), L12 PB7/A15/PO31/TIOCA11/TIOCB11 (io), L13 PB5/A13/PO29/TIOCA10/TIOCB10 (io), L14 PB4/A12/PO28/TIOCA10 (io), L15 PB3/A11/PO27/TIOCC9/TIOCD9 (io), M1 P27/PO7/TIOCA5/TIOCB5/SCK1 (io), M2 P26/PO6/TIOCA5/TMO1/TxD1 (io), M6 P37/PO15/TIOCA2/TIOCB2/TCLKD-A (io), M10 P51/~{WR1}/~{BC1} (io), M12 PC7/A23/TxD5/~{CS4}-D/~{CS7}-D (io), M14 PC0/A16 (io), M15 PB6/A14/PO30/TIOCA11 (io), N1 P25/PO5/TIOCA4/TMCI1/RxD1 (io), N2 P24/PO4/TIOCA4/TIOCB4/TMRI1 (io), N3 P20/PO0/TIOCA3/TIOCB3/TMRI0/TxD0 (io), N6 P36/PO14/TIOCA2 (io), N10 P50/~{WR0}/~{WR} (io), N14 PC2/A18 (io), N15 PC1/A17 (io), P1 P23/PO3/TIOCC3/TIOCD3 (io), P2 P22/PO2/TIOCC3/TMO0/SCK0 (io), P9 P52/~{RD} (io), P13 PC6/A22/RxD5/~{CS6}-D (io), P14 PC4/A20 (out), R1 P21/PO1/TIOCA3/TMCI0/RxD0 (io), R6 P35/PO13/TIOCA1/TIOCB1/TCLKC-A (io), R9 P53/BCLK (io), R14 PC5/A21/SCK5/~{CS5}-D (io), R15 PC3/A19 (io)
part B pins: A1 P04/TMCI3/TxD4/IRQ12-A/TDI (io), A4 P43/AN3/IRQ11-B (io), A5 P46/AN6/IRQ14-B (io), A6 P90/AN8 (io), A7 P93/AN11 (io), A8 P97/AN15 (io), A9 PG2 (io), B1 P67/DA1 (io), B2 P05/TMO3/RxD4/IRQ13-A/TCK (io), B4 P42/AN2/IRQ10-B (io), B5 P45/AN5/IRQ13-B (io), B7 P92/AN10 (io), B8 P96/AN14 (io), B9 PG1 (io), C1 P02/TMO2/SCK6/IRQ10-A/~{TRST} (io), C2 P66/DA0 (io), C3 P03/TMRI3/SCK4/IRQ11-A/TMS (io), C4 P41/AN1/IRQ9-B (io), C5 P47/AN7/IRQ15-B (io), C7 P94/AN12 (io), C9 PG3 (io), D1 P65/IRQ15-A (io), D2 P01/TMCI2/RxD6/IRQ9-A (io), D4 P40/AN0/IRQ8-B (io), D5 P44/AN4/IRQ12-B (io), D6 P91/AN9 (io), D7 P95/AN13 (io), D8 PG0 (io), D9 PG4 (io), D15 PG5 (io), E2 ~{WDTOVF}/TDO (out), E4 P00/TMRI2/TxD6/IRQ8-A (io), E13 PG7 (io), E14 PG6 (io), G3 P85 (io), G4 P86 (io), H14 PH0 (io), H15 PH1 (io), J1 PF5 (io), J2 PF4 (io), J3 PF6 (io), J12 P72 (io), K14 P73 (io), K15 P74/~{ADTRG3} (io), L1 PF2 (io), L2 PF1 (io), L3 PF3 (io), L4 PF0 (io), M5 P14/TCLKA-B/SDA1/IRQ4-B (io), M7 P57/~{WAIT}/TRDATA3 (io), M8 P83 (io), M9 P81/~{TRSYNC} (io), M11 PH4 (io), N4 P16/TCLKC-B/RxD3/SDA0/IRQ6-B (io), N5 P12/RxD2/IRQ2-B (io), N7 P56/TRDATA2 (io), N9 P80 (io), N12 P76/IRQ14-A (io), N13 PH2 (io), P4 P15/TCLKB-B/SCK3/SCL1/IRQ5-B (io), P5 P11/SCK2/IRQ1-B (io), P6 P84 (io), P7 P54/TRDATA0 (io), P10 PH6 (io), P12 P77 (io), R2 P17/TCLKD-B/TxD3/SCL0/~{ADTRG1}/IRQ7-B (io), R4 P13/TxD2/~{ADTRG0}/IRQ3-B (io), R5 P10/IRQ0-B (io), R7 P55/TRDATA1 (io), R8 P82/TRCLK (io), R10 PH7 (io), R11 PH5 (io), R12 PH3 (io), R13 P75 (io)
part C pins: A2 AVCC (power), A3 VREFL (in), B3 VREFH (in), B6 VCC (power), B12 VCC (power), C6 VSS (power), C12 VSS (power), D3 AVSS (power), E1 VSS (power), E12 VCC (power), E15 VSS (power), F3 VCL (in), H1 VCC (power), H4 VSS (power), H13 VSS (power), J14 VCC (power), M3 VCC (power), M4 VSS (power), M13 VSS (power), N8 VSS (power), N11 VSS (power), P3 PLLVCC (power), P8 VCC (power), P11 VCC (power), P15 VCC (power), R3 PLLVSS (power)

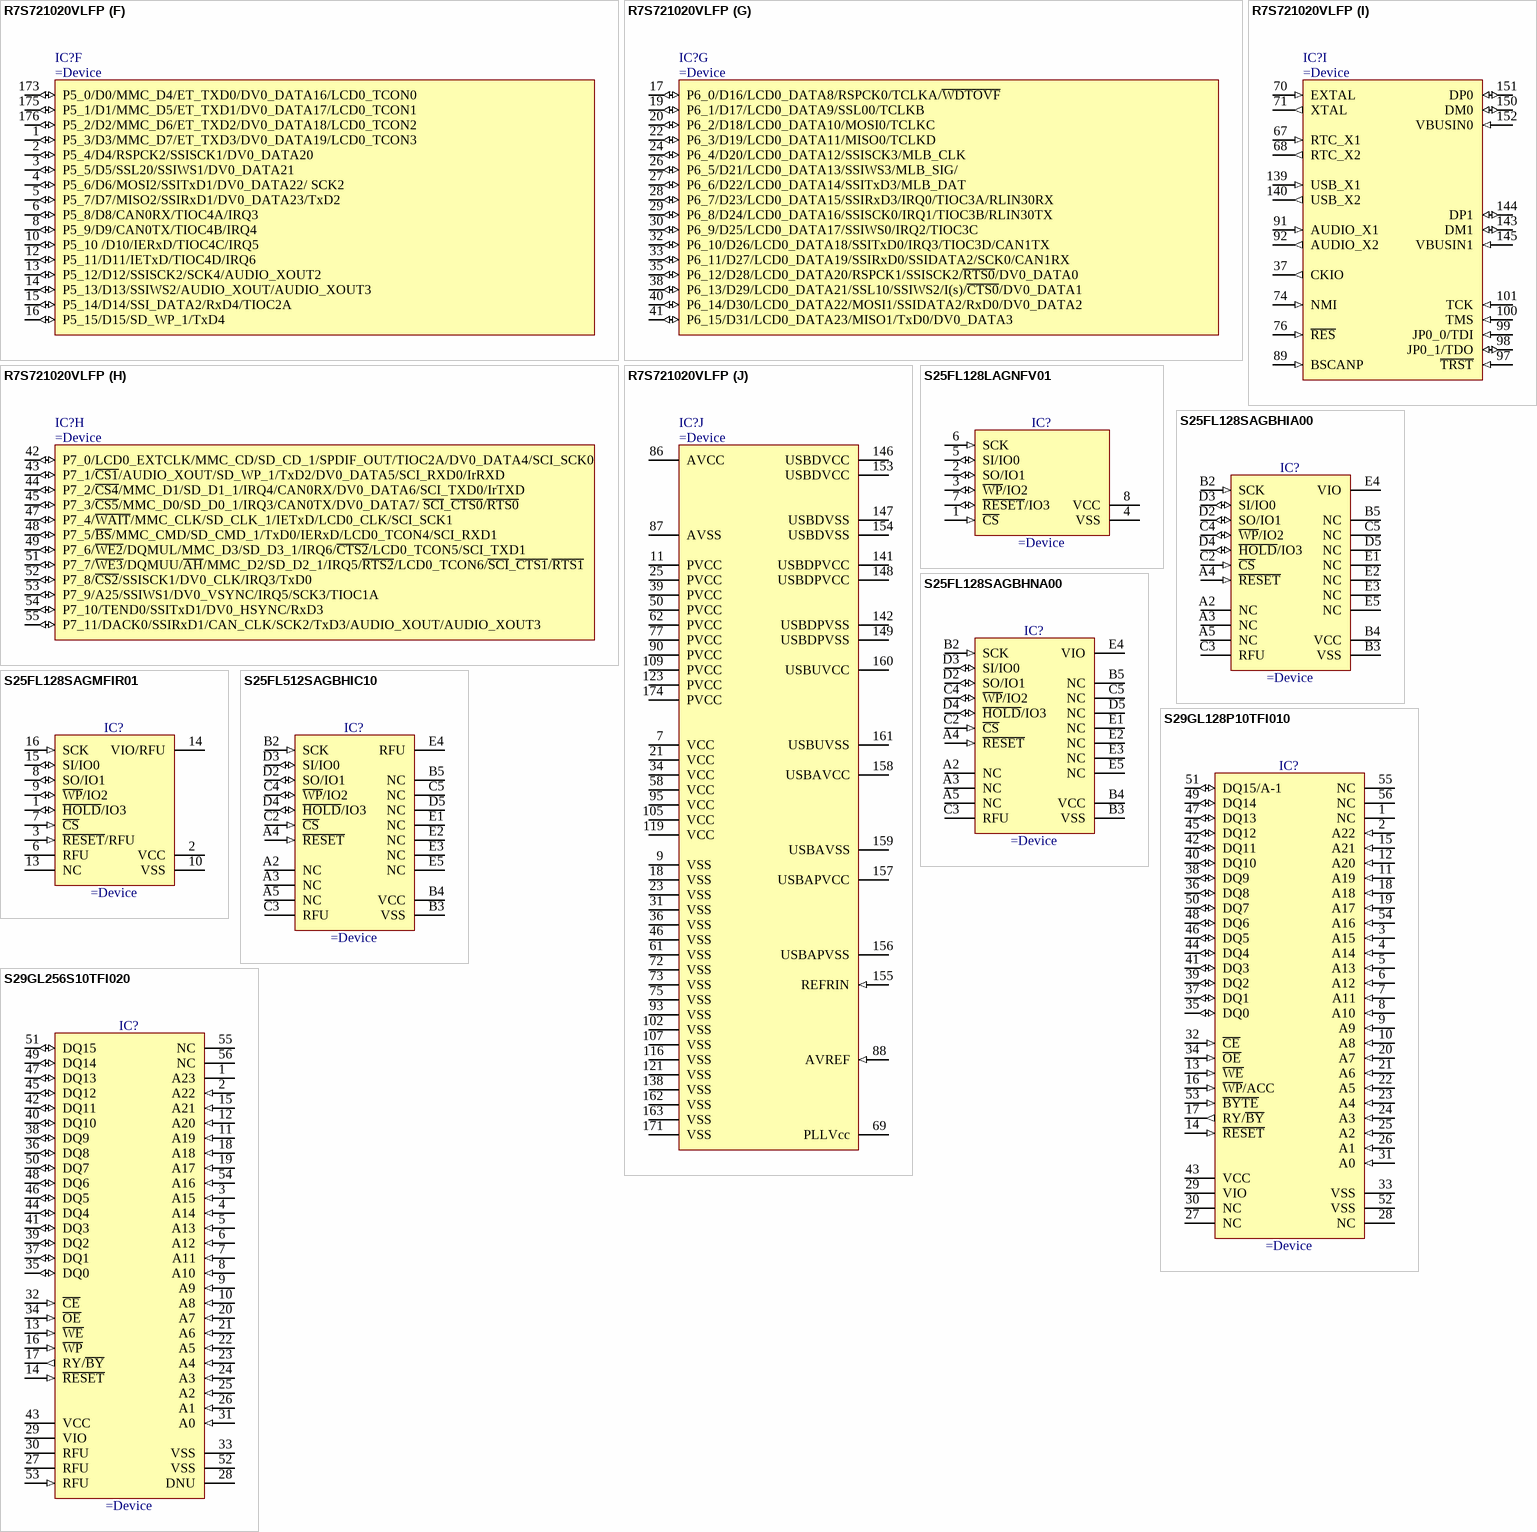
[diagram p117: symbols R7S721020VLFP to S29GL256S10TFI020]

## R7S721020VLFP
designator IC?
Microprocessor RZ Family / RZ/A Series
part A pins: 63 P0_0/MD_BOOT0/RxD0/IRQ4 (io), 64 P0_1/MD_BOOT1/RxD2/SSIRxD3/~{ADTRG} (io), 65 P0_2/MD_CLK/RxD1/IRQ7 (io), 66 P0_3/MD_CLKS/RxD3/SPDIF_IN (io)
part B pins: 78 P1_8/AN0/IRQ0/RxD0/DV0_DATA4 (io), 79 P1_9/AN1/IRQ1/RxD1/DV0_DATA5 (io), 80 P1_10/AN2/IRQ2/RxD2/DV0_DATA (io), 81 P1_11/AN3/IRQ3/RxD3/DV0_DATA7 (io), 82 P1_12/AN4/IRQ4/ET_RXD0/VIO_D4 (io), 83 P1_13/AN5/IRQ5/ET_RXD1/VIO_D5 (io), 84 P1_14/AN6/IRQ6/ET_RXD2/VIO_D6 (io), 85 P1_15/AN7/IRQ7/ET_RXD3/VIO_D7 (io), 125 P1_0/RIIC0SCL/IRQ4/ET_RXD0/DV0_DATA0 (io), 126 P1_1/RIIC0SDA/IRQ5/ET_RXD1/DV0_DATA1 (io), 127 P1_2/RIIC1SCL/IRQ6/ET_RXD2/DV0_DATA2 (io), 128 P1_3/RIIC1SDA/IRQ7/ET_RXD3/DV0_DATA3 (io), 129 P1_4/RIIC2SCL/IRQ0/DREQ0/VIO_D0 (io), 130 P1_5/ RIIC2SDA/IRQ1/VIO_D1 (io), 131 P1_6/RIIC3SCL/IRQ2/SSIRxD0/VIO_D2 (io), 132 P1_7/RIIC3SDA/IRQ3/RxD2/VIO_D3 (io)
part C pins: 56 P2_0/~{CS3}/RLIN30_RX/SPDIF_IN/IRQ7 (io), 57 P2_1/~{RAS}/RLIN30TX/SPDIF_OUT/IRQ6 (io), 59 P2_2/~{CAS}/CAN1RX/TIOC0C/IRQ5 (io), 60 P2_3/CKE/CAN1TX/TIOC0D (io), 94 P2_4/~{WE0}/DQMLL/TIOC4A (io), 96 P2_5/~{WE1}/~{WE}/DQMLU/TIOC3A (io), 134 P2_6/RD/~{WR}SSIRxD~{3}TIOC2A (io), 135 P2_7/~{CS0}/SSISCK3/TIOC1A/IRQ2 (io), 136 P2_8/~{RD}/SSITxD3/TIOC0A/CAN0TX (io), 137 P2_9/A0/SSIWS3/SCK0/IRQ1/CAN0RX (io)
part D pins: 103 P3_0/A1/SD_D2_0/LCD0_DATA0/ET_TXCLK (io), 104 P3_1/A2/SD_D3_0/LCD0_DATA1/ET_TXER (io), 106 P3_2/A3/SD_CMD_0/LCD0_DATA2/ET_TXEN (io), 108 P3_3/A4/SD_CLK_0/LCD0_DATA3/ET_RXCLK (io), 110 P3_4/A5/SD_D0_0/LCD0_DATA4/ET_RXER (io), 111 P3_5/A6/SD_D1_0/LCD0_DATA5/ET_RXDV (io), 112 P3_6/A7/SD_WP_0/LCD0_DATA6/ET_COL (io), 113 P3_7/A8/SD_CD_0/LCD0_DATA7/ET_CRS (io), 114 P3_8/A9/AUDIO_CLK/DV0_DATA8/SCK3 (io), 115 P3_9/A10/SPDIF_OUT/DV0_DATA9/TxD3 (io), 117 P3_10/A11/SPBIO01_0/TIOC3B/DV0_DATA10/RxD3 (io), 118 P3_11/A12/SPBIO11_0/TIOC3A/DV0_DATA11 (io), 120 P3_12/A13/SPBIO21_0/TIOC3C/DV0_DATA12 (io), 122 P3_13/A14/SPBIO31_0/TIOC3D/DV0_DATA13 (io), 124 P3_14/A15/VIO_CLK I(s) SPDIF_IN/DV0_DATA14/SCK1/AUDIO_XOUT2 (io), 133 P3_15/A16/VIO_FLD/DV0_DATA15/TxD1 (io)
part E pins: 164 P4_0 I/A17/VIO_VD/TIOC1B/ET_MDC/~{CTS1}/ (io), 165 P4_1/A18/VIO_HD/TIOC2B/ET_MDIO/~{RTS1} (io), 166 P4_2/A19/SPBIO20_0/TRACEDATA2 (io), 167 P4_3/A20/SPBIO30_0/TRACEDATA3 (io), 168 P4_4/A21/SPBCLK_0/TRACECLK (io), 169 P4_5/A22/SPBSSL_0/TRACECTL (io), 170 P4_6/A23/SPBIO00_0/TRACEDATA0 (io), 172 P4_7/A24/SPBIO10_0/TRACEDATA1 (io)
part F pins: 1 P5_3/D3/MMC_D7/ET_TXD3/DV0_DATA19/LCD0_TCON3 (io), 2 P5_4/D4/RSPCK2/SSISCK1/DV0_DATA20 (io), 3 P5_5/D5/SSL20/SSIWS1/DV0_DATA21 (io), 4 P5_6/D6/MOSI2/SSITxD1/DV0_DATA22/ SCK2 (io), 5 P5_7/D7/MISO2/SSIRxD1/DV0_DATA23/TxD2 (io), 6 P5_8/D8/CAN0RX/TIOC4A/IRQ3 (io), 8 P5_9/D9/CAN0TX/TIOC4B/IRQ4 (io), 10 P5_10 /D10/IERxD/TIOC4C/IRQ5 (io), 12 P5_11/D11/IETxD/TIOC4D/IRQ6 (io), 13 P5_12/D12/SSISCK2/SCK4/AUDIO_XOUT2 (io), 14 P5_13/D13/SSIWS2/AUDIO_XOUT/AUDIO_XOUT3 (io), 15 P5_14/D14/SSI_DATA2/RxD4/TIOC2A (io), 16 P5_15/D15/SD_WP_1/TxD4 (io), 173 P5_0/D0/MMC_D4/ET_TXD0/DV0_DATA16/LCD0_TCON0 (io), 175 P5_1/D1/MMC_D5/ET_TXD1/DV0_DATA17/LCD0_TCON1 (io), 176 P5_2/D2/MMC_D6/ET_TXD2/DV0_DATA18/LCD0_TCON2 (io)
part G pins: 17 P6_0/D16/LCD0_DATA8/RSPCK0/TCLKA/~{WDTOVF} (io), 19 P6_1/D17/LCD0_DATA9/SSL00/TCLKB (io), 20 P6_2/D18/LCD0_DATA10/MOSI0/TCLKC (io), 22 P6_3/D19/LCD0_DATA11/MISO0/TCLKD (io), 24 P6_4/D20/LCD0_DATA12/SSISCK3/MLB_CLK (io), 26 P6_5/D21/LCD0_DATA13/SSIWS3/MLB_SIG/ (io), 27 P6_6/D22/LCD0_DATA14/SSITxD3/MLB_DAT (io), 28 P6_7/D23/LCD0_DATA15/SSIRxD3/IRQ0/TIOC3A/RLIN30RX (io), 29 P6_8/D24/LCD0_DATA16/SSISCK0/IRQ1/TIOC3B/RLIN30TX (io), 30 P6_9/D25/LCD0_DATA17/SSIWS0/IRQ2/TIOC3C (io), 32 P6_10/D26/LCD0_DATA18/SSITxD0/IRQ3/TIOC3D/CAN1TX (io), 33 P6_11/D27/LCD0_DATA19/SSIRxD0/SSIDATA2/SCK0/CAN1RX (io), 35 P6_12/D28/LCD0_DATA20/RSPCK1/SSISCK2/~{RTS0}/DV0_DATA0 (io), 38 P6_13/D29/LCD0_DATA21/SSL10/SSIWS2/I(s)/~{CTS0}/DV0_DATA1 (io), 40 P6_14/D30/LCD0_DATA22/MOSI1/SSIDATA2/RxD0/DV0_DATA2 (io), 41 P6_15/D31/LCD0_DATA23/MISO1/TxD0/DV0_DATA3 (io)
part H pins: 42 P7_0/LCD0_EXTCLK/MMC_CD/SD_CD_1/SPDIF_OUT/TIOC2A/DV0_DATA4/SCI_SCK0 (io), 43 P7_1/~{CS1}/AUDIO_XOUT/SD_WP_1/TxD2/DV0_DATA5/SCI_RXD0/IrRXD (io), 44 P7_2/~{CS4}/MMC_D1/SD_D1_1/IRQ4/CAN0RX/DV0_DATA6/SCI_TXD0/IrTXD (io), 45 P7_3/~{CS5}/MMC_D0/SD_D0_1/IRQ3/CAN0TX/DV0_DATA7/ ~{SCI}_~{CTS0}/~{RTS0} (io), 47 P7_4/~{WAIT}/MMC_CLK/SD_CLK_1/IETxD/LCD0_CLK/SCI_SCK1 (io), 48 P7_5/~{BS}/MMC_CMD/SD_CMD_1/TxD0/IERxD/LCD0_TCON4/SCI_RXD1 (io), 49 P7_6/~{WE2}/DQMUL/MMC_D3/SD_D3_1/IRQ6/~{CTS2}/LCD0_TCON5/SCI_TXD1 (io), 51 P7_7/~{WE3}/DQMUU/~{AH}/MMC_D2/SD_D2_1/IRQ5/~{RTS2}/LCD0_TCON6/~{SCI}_~{CTS1}/~{RTS1} (io), 52 P7_8/~{CS2}/SSISCK1/DV0_CLK/IRQ3/TxD0 (io), 53 P7_9/A25/SSIWS1/DV0_VSYNC/IRQ5/SCK3/TIOC1A (io), 54 P7_10/TEND0/SSITxD1/DV0_HSYNC/RxD3 (io), 55 P7_11/DACK0/SSIRxD1/CAN_CLK/SCK2/TxD3/AUDIO_XOUT/AUDIO_XOUT3 (io)
part I pins: 37 CKIO (out), 67 RTC_X1 (in), 68 RTC_X2 (out), 70 EXTAL (in), 71 XTAL (out), 74 NMI (in), 76 ~{RES} (in), 89 BSCANP (in), 91 AUDIO_X1 (in), 92 AUDIO_X2 (out), 97 ~{TRST} (in), 98 JP0_1/TDO (io), 99 JP0_0/TDI (in), 100 TMS (in), 101 TCK (in), 139 USB_X1 (in), 140 USB_X2 (out), 143 DM1 (io), 144 DP1 (io), 145 VBUSIN1 (in), 150 DM0 (io), 151 DP0 (io), 152 VBUSIN0 (in)
part J pins: 7 VCC (power), 9 VSS (power), 11 PVCC (power), 18 VSS (power), 21 VCC (power), 23 VSS (power), 25 PVCC (power), 31 VSS (power), 34 VCC (power), 36 VSS (power), 39 PVCC (power), 46 VSS (power), 50 PVCC (power), 58 VCC (power), 61 VSS (power), 62 PVCC (power), 69 PLLVcc (power), 72 VSS (power), 73 VSS (power), 75 VSS (power), 77 PVCC (power), 86 AVCC (power), 87 AVSS (power), 88 AVREF (in), 90 PVCC (power), 93 VSS (power), 95 VCC (power), 102 VSS (power), 105 VCC (power), 107 VSS (power), 109 PVCC (power), 116 VSS (power), 119 VCC (power), 121 VSS (power), 123 PVCC (power), 138 VSS (power), 141 USBDPVCC (power), 142 USBDPVSS (power), 146 USBDVCC (power), 147 USBDVSS (power), 148 USBDPVCC (power), 149 USBDPVSS (power), 153 USBDVCC (power), 154 USBDVSS (power), 155 REFRIN (in), 156 USBAPVSS (power), 157 USBAPVCC (power), 158 USBAVCC (power), 159 USBAVSS (power), 160 USBUVCC (power), 161 USBUVSS (power), 162 VSS (power), 163 VSS (power), 171 VSS (power), 174 PVCC (power)

## S25FL128LAGNFV01
designator IC?
128 Mbit (16 Mbyte), 3.0 V Quad SPI FL-L  NOR Flash Memory
pins: 1 ~{CS} (in), 2 SO/IO1 (io), 3 ~{WP}/IO2 (io), 4 VSS (power), 5 SI/IO0 (io), 6 SCK (in), 7 ~{RESET}/IO3 (io), 8 VCC (power)

## S25FL128SAGBHIA00
designator IC?
128 Mbit (16 Mbyte) MirrorBit® Flash Non-Volatile Memory CMOS 3.0 Volt Core with Versatile I/O Serial Peripheral Interface with Multi-I/O
pins: A2 NC, A3 NC, A4 ~{RESET} (in), A5 NC, B2 SCK (in), B3 VSS (power), B4 VCC (power), B5 NC, C2 ~{CS} (in), C3 RFU, C4 ~{WP}/IO2 (io), C5 NC, D2 SO/IO1 (io), D3 SI/IO0 (io), D4 ~{HOLD}/IO3 (io), D5 NC, E1 NC, E2 NC, E3 NC, E4 VIO (power), E5 NC

## S25FL128SAGBHNA00
designator IC?
128 Mbit (16 Mbyte) MirrorBit® Flash Non-Volatile Memory CMOS 3.0 Volt Core with Versatile I/O Serial Peripheral Interface with Multi-I/O
pins: A2 NC, A3 NC, A4 ~{RESET} (in), A5 NC, B2 SCK (in), B3 VSS (power), B4 VCC (power), B5 NC, C2 ~{CS} (in), C3 RFU, C4 ~{WP}/IO2 (io), C5 NC, D2 SO/IO1 (io), D3 SI/IO0 (io), D4 ~{HOLD}/IO3 (io), D5 NC, E1 NC, E2 NC, E3 NC, E4 VIO (power), E5 NC

## S25FL128SAGMFIR01
designator IC?
128Mbit, MirrorBit® Flash Non-Volatile Memory CMOS 3.0 Volt Core with Versatile I/O Serial Peripheral Interface with Multi-I/O
pins: 1 ~{HOLD}/IO3 (io), 2 VCC (power), 3 ~{RESET}/RFU (in), 6 RFU, 7 ~{CS} (in), 8 SO/IO1 (io), 9 ~{WP}/IO2 (io), 10 VSS (power), 13 NC, 14 VIO/RFU (power), 15 SI/IO0 (io), 16 SCK (in)

## S25FL512SAGBHIC10
designator IC?
512Mbit (64Mx8 bit), 133MHz, MirrorBit® SPI Flash Memory with Reset
pins: A2 NC, A3 NC, A4 ~{RESET} (in), A5 NC, B2 SCK (in), B3 VSS (power), B4 VCC (power), B5 NC, C2 ~{CS} (in), C3 RFU, C4 ~{WP}/IO2 (io), C5 NC, D2 SO/IO1 (io), D3 SI/IO0 (io), D4 ~{HOLD}/IO3 (io), D5 NC, E1 NC, E2 NC, E3 NC, E4 RFU, E5 NC

## S29GL128P10TFI010
designator IC?
2.7V to 3.6V, 100ns, 128 Megabit Flash Memory, 90 nm MirrorBit Process Technology
pins: 1 NC, 2 A22 (in), 3 A15 (in), 4 A14 (in), 5 A13 (in), 6 A12 (in), 7 A11 (in), 8 A10 (in), 9 A9 (in), 10 A8 (in), 11 A19 (in), 12 A20 (in), 13 ~{WE} (in), 14 ~{RESET} (in), 15 A21 (in), 16 ~{WP}/ACC (in), 17 RY/~{BY} (out), 18 A18 (in), 19 A17 (in), 20 A7 (in), 21 A6 (in), 22 A5 (in), 23 A4 (in), 24 A3 (in), 25 A2 (in), 26 A1 (in), 27 NC, 28 NC, 29 VIO (power), 30 NC, 31 A0 (in), 32 ~{CE} (in), 33 VSS (power), 34 ~{OE} (in), 35 DQ0 (io), 36 DQ8 (io), 37 DQ1 (io), 38 DQ9 (io), 39 DQ2 (io), 40 DQ10 (io), 41 DQ3 (io), 42 DQ11 (io), 43 VCC (power), 44 DQ4 (io), 45 DQ12 (io), 46 DQ5 (io), 47 DQ13 (io), 48 DQ6 (io), 49 DQ14 (io), 50 DQ7 (io), 51 DQ15/A-1 (io), 52 VSS (power), 53 ~{BYTE} (in), 54 A16 (in), 55 NC, 56 NC

## S29GL256S10TFI020
designator IC?
2.7V to 3.6V, 100ns, 256 Mbit (32Mbyte), MirrorBit Eclipse Flash Memory, 65nm  Process Technology
pins: 1 A23, 2 A22 (in), 3 A15 (in), 4 A14 (in), 5 A13 (in), 6 A12 (in), 7 A11 (in), 8 A10 (in), 9 A9 (in), 10 A8 (in), 11 A19 (in), 12 A20 (in), 13 ~{WE} (in), 14 ~{RESET} (in), 15 A21 (in), 16 ~{WP} (in), 17 RY/~{BY} (out), 18 A18 (in), 19 A17 (in), 20 A7 (in), 21 A6 (in), 22 A5 (in), 23 A4 (in), 24 A3 (in), 25 A2 (in), 26 A1 (in), 27 RFU, 28 DNU, 29 VIO (power), 30 RFU, 31 A0 (in), 32 ~{CE} (in), 33 VSS (power), 34 ~{OE} (in), 35 DQ0 (io), 36 DQ8 (io), 37 DQ1 (io), 38 DQ9 (io), 39 DQ2 (io), 40 DQ10 (io), 41 DQ3 (io), 42 DQ11 (io), 43 VCC (power), 44 DQ4 (io), 45 DQ12 (io), 46 DQ5 (io), 47 DQ13 (io), 48 DQ6 (io), 49 DQ14 (io), 50 DQ7 (io), 51 DQ15 (io), 52 VSS (power), 53 RFU (in), 54 A16 (in), 55 NC, 56 NC

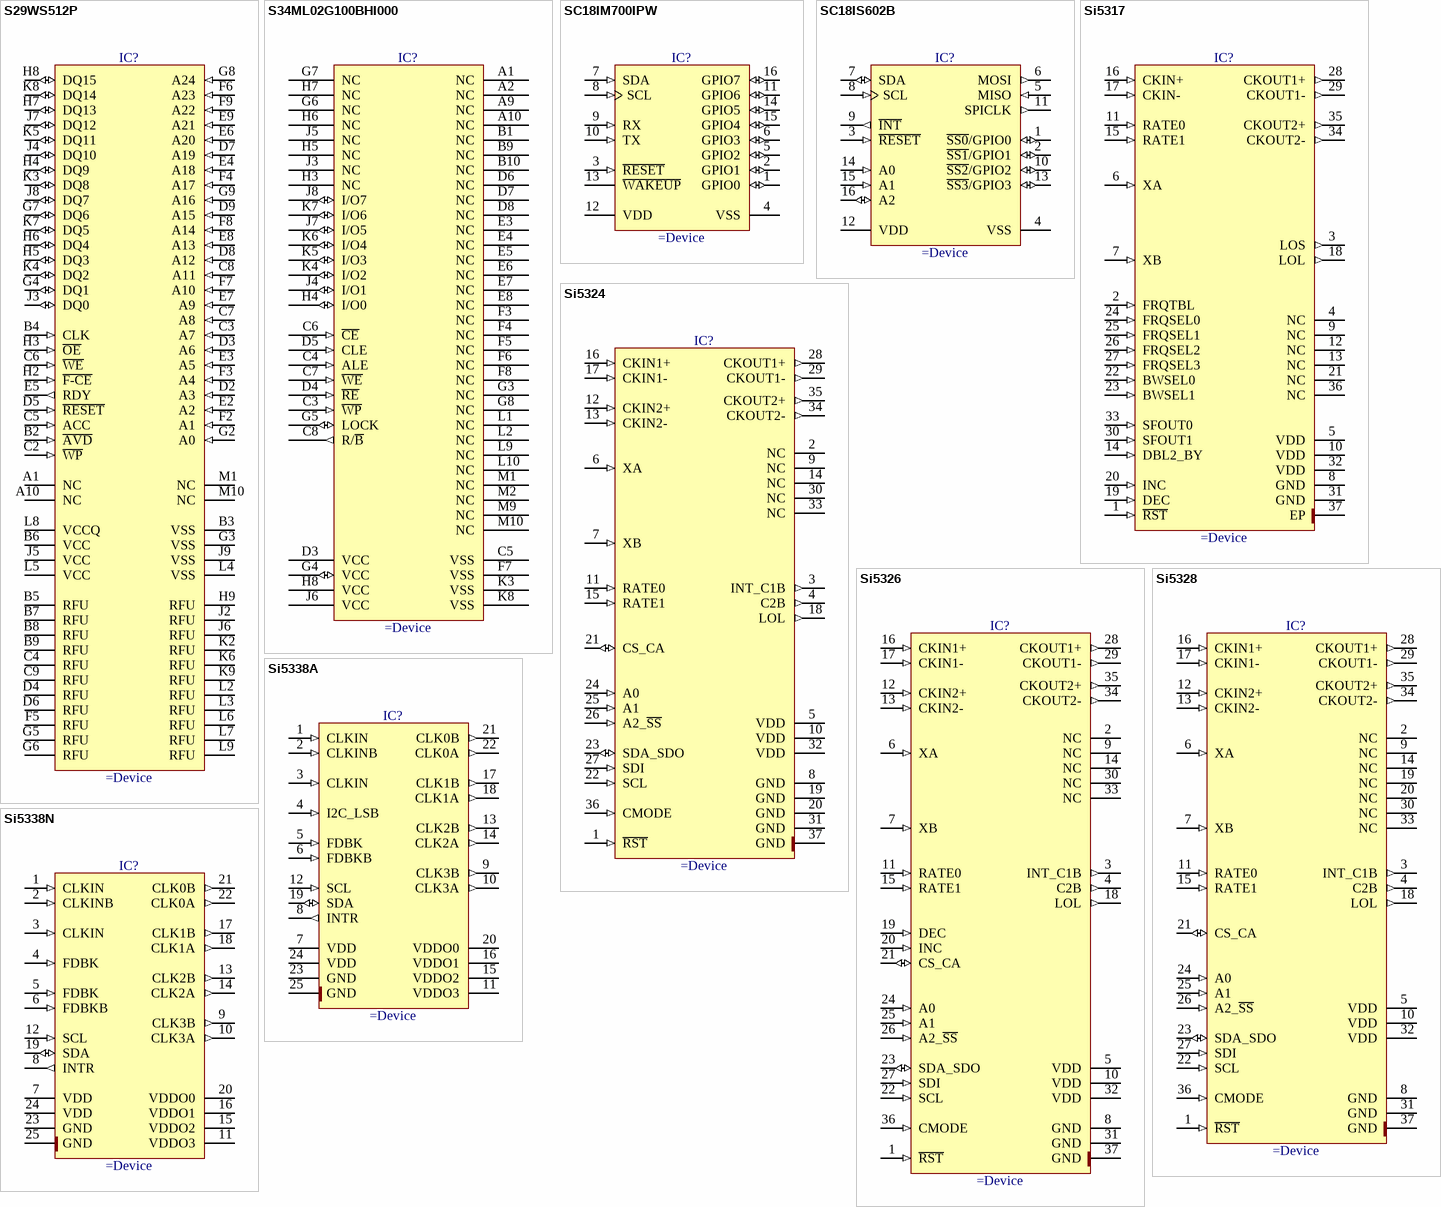
[diagram p118: symbols S29WS512P to Si5338N]

## S29WS512P
designator IC?
512Mb (32Mx16 bit), 1.8V, 80MHz, Simultaneous Read/Write Burst Mode Flash Memory
pins: A1 NC, A10 NC, B2 ~{AVD} (in), B3 VSS (power), B4 CLK (in), B5 RFU, B6 VCC (power), B7 RFU, B8 RFU, B9 RFU, C2 ~{WP} (in), C3 A7 (in), C4 RFU, C5 ACC (in), C6 ~{WE} (in), C7 A8 (in), C8 A11 (in), C9 RFU, D2 A3 (in), D3 A6 (in), D4 RFU, D5 ~{RESET} (in), D6 RFU, D7 A19 (in), D8 A12 (in), D9 A15 (in), E2 A2 (in), E3 A5 (in), E4 A18 (in), E5 RDY (out), E6 A20 (in), E7 A9 (in), E8 A13 (in), E9 A21 (in), F2 A1 (in), F3 A4 (in), F4 A17 (in), F5 RFU, F6 A23 (in), F7 A10 (in), F8 A14 (in), F9 A22 (in), G2 A0 (in), G3 VSS (power), G4 DQ1 (io), G5 RFU, G6 RFU, G7 DQ6 (io), G8 A24 (in), G9 A16 (in), H2 ~{F-CE} (in), H3 ~{OE} (in), H4 DQ9 (io), H5 DQ3 (io), H6 DQ4 (io), H7 DQ13 (io), H8 DQ15 (io), H9 RFU, J2 RFU, J3 DQ0 (io), J4 DQ10 (io), J5 VCC (power), J6 RFU, J7 DQ12 (io), J8 DQ7 (io), J9 VSS (power), K2 RFU, K3 DQ8 (io), K4 DQ2 (io), K5 DQ11 (io), K6 RFU, K7 DQ5 (io), K8 DQ14 (io), K9 RFU, L2 RFU, L3 RFU, L4 VSS (power), L5 VCC (power), L6 RFU, L7 RFU, L8 VCCQ (power), L9 RFU, M1 NC, M10 NC

## S34ML02G100BHI000
designator IC?
2 Gb, 3V SLC ×8 NAND Flash For Embedded
pins: A1 NC, A2 NC, A9 NC, A10 NC, B1 NC, B9 NC, B10 NC, C3 ~{WP} (in), C4 ALE (in), C5 VSS (power), C6 ~{CE} (in), C7 ~{WE} (in), C8 R/~{B} (out), D3 VCC (power), D4 ~{RE} (in), D5 CLE (in), D6 NC, D7 NC, D8 NC, E3 NC, E4 NC, E5 NC, E6 NC, E7 NC, E8 NC, F3 NC, F4 NC, F5 NC, F6 NC, F7 VSS (power), F8 NC, G3 NC, G4 VCC (io), G5 LOCK (io), G6 NC, G7 NC, G8 NC, H3 NC, H4 I/O0 (io), H5 NC, H6 NC, H7 NC, H8 VCC (power), J3 NC, J4 I/O1 (io), J5 NC, J6 VCC (power), J7 I/O5 (io), J8 I/O7 (io), K3 VSS (power), K4 I/O2 (io), K5 I/O3 (io), K6 I/O4 (io), K7 I/O6 (io), K8 VSS (power), L1 NC, L2 NC, L9 NC, L10 NC, M1 NC, M2 NC, M9 NC, M10 NC

## SC18IM700IPW
designator IC?
Master I2C-Bus Controller With UART Interface
pins: 1 GPIO0 (io), 2 GPIO1 (io), 3 ~{RESET} (in), 4 VSS (power), 5 GPIO2 (io), 6 GPIO3 (io), 7 SDA (in), 8 SCL (in), 9 RX (in), 10 TX (in), 11 GPIO6 (io), 12 VDD (power), 13 ~{WAKEUP}, 14 GPIO5 (io), 15 GPIO4 (io), 16 GPIO7 (io)

## SC18IS602B
designator IC?
I2C-bus to SPI bridge
pins: 1 ~{SS0}/GPIO0 (io), 2 ~{SS1}/GPIO1 (io), 3 ~{RESET} (in), 4 VSS (power), 5 MISO (in), 6 MOSI (out), 7 SDA (io), 8 SCL (in), 9 ~{INT} (out), 10 ~{SS2}/GPIO2 (io), 11 SPICLK (out), 12 VDD (power), 13 ~{SS3}/GPIO3 (io), 14 A0 (in), 15 A1 (in), 16 A2 (io)

## Si5317
designator IC?
Pin-Controlled Jitter Cleaning Clock
pins: 1 ~{RST} (in), 2 FRQTBL (in), 3 LOS (out), 4 NC, 5 VDD (power), 6 XA (in), 7 XB (in), 8 GND (power), 9 NC, 10 VDD (power), 11 RATE0 (in), 12 NC, 13 NC, 14 DBL2_BY (in), 15 RATE1 (in), 16 CKIN+ (in), 17 CKIN- (in), 18 LOL (out), 19 DEC (in), 20 INC (in), 21 NC, 22 BWSEL0 (in), 23 BWSEL1 (in), 24 FRQSEL0 (in), 25 FRQSEL1 (in), 26 FRQSEL2 (in), 27 FRQSEL3 (in), 28 CKOUT1+ (out), 29 CKOUT1- (out), 30 SFOUT1 (in), 31 GND (power), 32 VDD (power), 33 SFOUT0 (in), 34 CKOUT2- (out), 35 CKOUT2+ (out), 36 NC, 37 EP (power)

## Si5324
designator IC?
Any Frequency Precision Clock Multiplier/Jitter Attenuator
pins: 1 ~{RST} (in), 2 NC, 3 INT_C1B (out), 4 C2B (out), 5 VDD (power), 6 XA (in), 7 XB (in), 8 GND (power), 9 NC, 10 VDD (power), 11 RATE0 (in), 12 CKIN2+ (in), 13 CKIN2- (in), 14 NC, 15 RATE1 (in), 16 CKIN1+ (in), 17 CKIN1- (in), 18 LOL (out), 19 GND (power), 20 GND (power), 21 CS_CA (io), 22 SCL (in), 23 SDA_SDO (io), 24 A0 (in), 25 A1 (in), 26 A2_~{SS} (in), 27 SDI (in), 28 CKOUT1+ (out), 29 CKOUT1- (out), 30 NC, 31 GND (power), 32 VDD (power), 33 NC, 34 CKOUT2- (out), 35 CKOUT2+ (out), 36 CMODE (in), 37 GND (power)

## Si5326
designator IC?
Any Frequency Precision Clock Multiplier/Jitter Attenuator
pins: 1 ~{RST} (in), 2 NC, 3 INT_C1B (out), 4 C2B (out), 5 VDD (power), 6 XA (in), 7 XB (in), 8 GND (power), 9 NC, 10 VDD (power), 11 RATE0 (in), 12 CKIN2+ (in), 13 CKIN2- (in), 14 NC, 15 RATE1 (in), 16 CKIN1+ (in), 17 CKIN1- (in), 18 LOL (out), 19 DEC (in), 20 INC (in), 21 CS_CA (io), 22 SCL (in), 23 SDA_SDO (io), 24 A0 (in), 25 A1 (in), 26 A2_~{SS} (in), 27 SDI (in), 28 CKOUT1+ (out), 29 CKOUT1- (out), 30 NC, 31 GND (power), 32 VDD (power), 33 NC, 34 CKOUT2- (out), 35 CKOUT2+ (out), 36 CMODE (in), 37 GND (power)

## Si5328
designator IC?
Any Frequency Precision Clock Multiplier/Jitter Attenuator
pins: 1 ~{RST} (in), 2 NC, 3 INT_C1B (out), 4 C2B (out), 5 VDD (power), 6 XA (in), 7 XB (in), 8 GND (power), 9 NC, 10 VDD (power), 11 RATE0 (in), 12 CKIN2+ (in), 13 CKIN2- (in), 14 NC, 15 RATE1 (in), 16 CKIN1+ (in), 17 CKIN1- (in), 18 LOL (out), 19 NC, 20 NC, 21 CS_CA (io), 22 SCL (in), 23 SDA_SDO (io), 24 A0 (in), 25 A1 (in), 26 A2_~{SS} (in), 27 SDI (in), 28 CKOUT1+ (out), 29 CKOUT1- (out), 30 NC, 31 GND (power), 32 VDD (power), 33 NC, 34 CKOUT2- (out), 35 CKOUT2+ (out), 36 CMODE (in), 37 GND (power)

## Si5338A
designator IC?
I2C-Programmable Any-Frequency, Any-Output Quad Clock Generator
pins: 1 CLKIN (in), 2 CLKINB (in), 3 CLKIN (in), 4 I2C_LSB (in), 5 FDBK (in), 6 FDBKB (in), 7 VDD (power), 8 INTR (out), 9 CLK3B (out), 10 CLK3A (out), 11 VDDO3 (power), 12 SCL (in), 13 CLK2B (out), 14 CLK2A (out), 15 VDDO2 (power), 16 VDDO1 (power), 17 CLK1B (out), 18 CLK1A (out), 19 SDA (io), 20 VDDO0 (power), 21 CLK0B (out), 22 CLK0A (out), 23 GND (power), 24 VDD (power), 25 GND (power)

## Si5338N
designator IC?
I2C-Programmable Any-Frequency, Any-Output Quad Clock Generator
pins: 1 CLKIN (in), 2 CLKINB (in), 3 CLKIN (in), 4 FDBK (in), 5 FDBK (in), 6 FDBKB (in), 7 VDD (power), 8 INTR (out), 9 CLK3B (out), 10 CLK3A (out), 11 VDDO3 (power), 12 SCL (in), 13 CLK2B (out), 14 CLK2A (out), 15 VDDO2 (power), 16 VDDO1 (power), 17 CLK1B (out), 18 CLK1A (out), 19 SDA (io), 20 VDDO0 (power), 21 CLK0B (out), 22 CLK0A (out), 23 GND (power), 24 VDD (power), 25 GND (power)

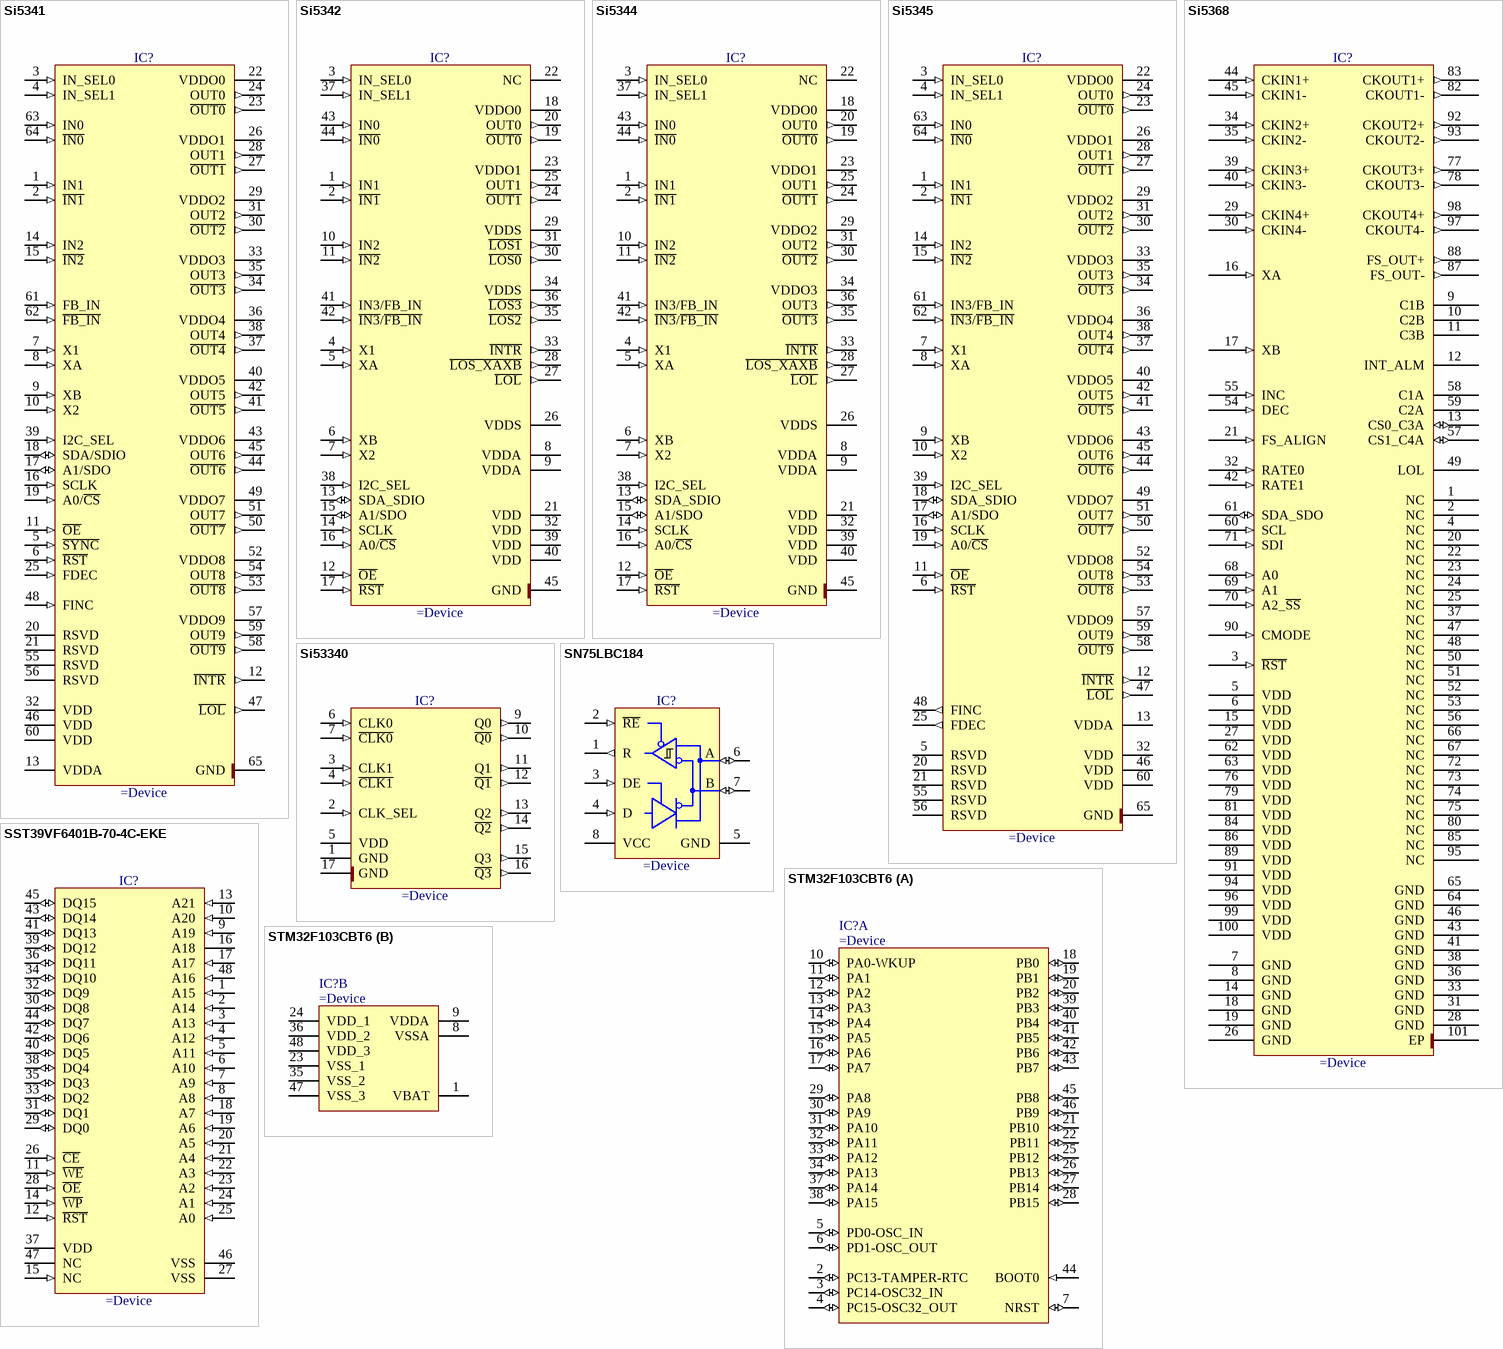
[diagram p119: symbols Si5341 to STM32F103CBT6]

## Si5341
designator IC?
Low-Jitter, 10-Output, Any-Frequency, Any-Output, Clock Generator
pins: 1 IN1 (in), 2 ~{IN1} (in), 3 IN_SEL0 (in), 4 IN_SEL1 (in), 5 ~{SYNC} (in), 6 ~{RST} (in), 7 X1 (in), 8 XA (in), 9 XB (in), 10 X2 (in), 11 ~{OE} (in), 12 ~{INTR} (out), 13 VDDA (power), 14 IN2 (in), 15 ~{IN2} (in), 16 SCLK (in), 17 A1/SDO (io), 18 SDA/SDIO (io), 19 A0/~{CS} (in), 20 RSVD, 21 RSVD, 22 VDDO0 (power), 23 ~{OUT0} (out), 24 OUT0 (out), 25 FDEC (in), 26 VDDO1 (power), 27 ~{OUT1} (out), 28 OUT1 (out), 29 VDDO2 (power), 30 ~{OUT2} (out), 31 OUT2 (out), 32 VDD (power), 33 VDDO3 (power), 34 ~{OUT3} (out), 35 OUT3 (out), 36 VDDO4 (power), 37 ~{OUT4} (out), 38 OUT4 (out), 39 I2C_SEL (in), 40 VDDO5 (power), 41 ~{OUT5} (out), 42 OUT5 (out), 43 VDDO6 (power), 44 ~{OUT6} (out), 45 OUT6 (out), 46 VDD (power), 47 ~{LOL} (out), 48 FINC (in), 49 VDDO7 (power), 50 ~{OUT7} (out), 51 OUT7 (out), 52 VDDO8 (power), 53 ~{OUT8} (out), 54 OUT8 (out), 55 RSVD, 56 RSVD, 57 VDDO9 (power), 58 ~{OUT9} (out), 59 OUT9 (out), 60 VDD (power), 61 FB_IN (in), 62 ~{FB_IN} (in), 63 IN0 (in), 64 ~{IN0} (in), 65 GND (power)

## Si5342
designator IC?
4 Input /2 Output, 0.001 to 1028MHz, Any-Output Jitter Attenuator/Clock Multiplier
pins: 1 IN1 (in), 2 ~{IN1} (in), 3 IN_SEL0 (in), 4 X1 (in), 5 XA (in), 6 XB (in), 7 X2 (in), 8 VDDA (power), 9 VDDA (power), 10 IN2 (in), 11 ~{IN2} (in), 12 ~{OE} (in), 13 SDA_SDIO (io), 14 SCLK (in), 15 A1/SDO (io), 16 A0/~{CS} (in), 17 ~{RST} (in), 18 VDDO0 (power), 19 ~{OUT0} (out), 20 OUT0 (out), 21 VDD (power), 22 NC, 23 VDDO1 (power), 24 ~{OUT1} (out), 25 OUT1 (out), 26 VDDS (power), 27 ~{LOL} (out), 28 ~{LOS_XAXB} (out), 29 VDDS (power), 30 ~{LOS0} (out), 31 ~{LOS1} (out), 32 VDD (power), 33 ~{INTR} (out), 34 VDDS (power), 35 ~{LOS2} (out), 36 ~{LOS3} (out), 37 IN_SEL1 (in), 38 I2C_SEL (in), 39 VDD (power), 40 VDD (power), 41 IN3/FB_IN (in), 42 ~{IN3}/~{FB_IN} (in), 43 IN0 (in), 44 ~{IN0} (in), 45 GND (power)

## Si5344
designator IC?
4 Input /4 Output, 0.001 to 1028MHz, Any-Output Jitter Attenuator/Clock Multiplier
pins: 1 IN1 (in), 2 ~{IN1} (in), 3 IN_SEL0 (in), 4 X1 (in), 5 XA (in), 6 XB (in), 7 X2 (in), 8 VDDA (power), 9 VDDA (power), 10 IN2 (in), 11 ~{IN2} (in), 12 ~{OE} (in), 13 SDA_SDIO (io), 14 SCLK (in), 15 A1/SDO (io), 16 A0/~{CS} (in), 17 ~{RST} (in), 18 VDDO0 (power), 19 ~{OUT0} (out), 20 OUT0 (out), 21 VDD (power), 22 NC, 23 VDDO1 (power), 24 ~{OUT1} (out), 25 OUT1 (out), 26 VDDS (power), 27 ~{LOL} (out), 28 ~{LOS_XAXB} (out), 29 VDDO2 (power), 30 ~{OUT2} (out), 31 OUT2 (out), 32 VDD (power), 33 ~{INTR} (out), 34 VDDO3 (power), 35 ~{OUT3} (out), 36 OUT3 (out), 37 IN_SEL1 (in), 38 I2C_SEL (in), 39 VDD (power), 40 VDD (power), 41 IN3/FB_IN (in), 42 ~{IN3}/~{FB_IN} (in), 43 IN0 (in), 44 ~{IN0} (in), 45 GND (power)

## Si5345
designator IC?
4 Input /10 Output, 0.001 to 1028MHz, Any-Output Jitter Attenuator/Clock Multiplier
pins: 1 IN1 (in), 2 ~{IN1} (in), 3 IN_SEL0 (in), 4 IN_SEL1 (in), 5 RSVD, 6 ~{RST} (in), 7 X1 (in), 8 XA (in), 9 XB (in), 10 X2 (in), 11 ~{OE} (in), 12 ~{INTR} (out), 13 VDDA (power), 14 IN2 (in), 15 ~{IN2} (in), 16 SCLK (in), 17 A1/SDO (io), 18 SDA_SDIO (io), 19 A0/~{CS} (in), 20 RSVD, 21 RSVD, 22 VDDO0 (power), 23 ~{OUT0} (out), 24 OUT0 (out), 25 FDEC (out), 26 VDDO1 (power), 27 ~{OUT1} (out), 28 OUT1 (out), 29 VDDO2 (power), 30 ~{OUT2} (out), 31 OUT2 (out), 32 VDD (power), 33 VDDO3 (power), 34 ~{OUT3} (out), 35 OUT3 (out), 36 VDDO4 (power), 37 ~{OUT4} (out), 38 OUT4 (out), 39 I2C_SEL (in), 40 VDDO5 (power), 41 ~{OUT5} (out), 42 OUT5 (out), 43 VDDO6 (power), 44 ~{OUT6} (out), 45 OUT6 (out), 46 VDD (power), 47 ~{LOL} (out), 48 FINC (out), 49 VDDO7 (power), 50 ~{OUT7} (out), 51 OUT7 (out), 52 VDDO8 (power), 53 ~{OUT8} (out), 54 OUT8 (out), 55 RSVD, 56 RSVD, 57 VDDO9 (power), 58 ~{OUT9} (out), 59 OUT9 (out), 60 VDD (power), 61 IN3/FB_IN (in), 62 ~{IN3}/~{FB_IN} (in), 63 IN0 (in), 64 ~{IN0} (in), 65 GND (power)

## Si5368
designator IC?
Any-Frequency Precision Clock Multiplier/Jitter Attenuator
pins: 1 NC "No Connect", 2 NC "No Connect", 3 ~{RST} (in) "External Reset", 4 NC "No Connect", 5 VDD (power), 6 VDD (power), 7 GND (power) "Ground.", 8 GND (power) "Ground.", 9 C1B (hiz) "CKIN1 Invalid Indicator", 10 C2B (hiz) "CKIN2 Invalid Indicator.", 11 C3B (hiz) "CKIN3 Invalid Indicator.", 12 INT_ALM (hiz) "Interrupt/Alarm Output Indicator", 13 CS0_C3A (io) "Input Clock Select/CKINn Active Clock Indicator", 14 GND (power) "Ground.", 15 VDD (power), 16 XA (in) "External Crystal or Reference Clock", 17 XB (in) "External Crystal or Reference Clock", 18 GND (power) "Ground.", 19 GND (power) "Ground.", 20 NC "No Connect", 21 FS_ALIGN (in) "FSYNC Alignment Control", 22 NC "No Connect.", 23 NC "No Connect.", 24 NC "No Connect.", 25 NC "No Connect.", 26 GND (power) "Ground.", 27 VDD (power), 28 GND (power) "Ground.", 29 CKIN4+ (in) "Clock Input 4.", 30 CKIN4- (in) "Clock Input 4.", 31 GND (power) "Ground.", 32 RATE0 (in) "External Crystal or Reference Clock Rate.", 33 GND (power) "Ground.", 34 CKIN2+ (in) "Clock Input 2.", 35 CKIN2- (in) "Clock Input 2.", 36 GND (power) "Ground.", 37 NC "No Connect.", 38 GND (power) "Ground.", 39 CKIN3+ (in) "Clock Input 3.", 40 CKIN3- (in) "Clock Input 3.", 41 GND (power) "Ground.", 42 RATE1 (in) "External Crystal or Reference Clock Rate.", 43 GND (power) "Ground.", 44 CKIN1+ (in) "Clock Input 1.", 45 CKIN1- (in) "Clock Input 1.", 46 GND (power) "Ground.", 47 NC "No Connect.", 48 NC "No Connect.", 49 LOL (hiz) "PLL Loss of Lock Indicator.", 50 NC "No Connect.", 51 NC "No Connect.", 52 NC "No Connect.", 53 NC "No Connect.", 54 DEC (in) "Coarse Skew Decrement.", 55 INC (in) "Coarse Skew Increment.", 56 NC "No Connect.", 57 CS1_C4A (io) "Input Clock Select/CKINn Active Clock Indicator", 58 C1A (hiz) "CKIN1 Active Clock Indicator", 59 C2A (hiz) "CKIN2 Active Clock Indicator.", 60 SCL (in) "Serial Clock.", 61 SDA_SDO (io) "Serial Data.", 62 VDD (power), 63 VDD (power), 64 GND (power) "Ground.", 65 GND (power) "Ground.", 66 NC "No Connect.", 67 NC "No Connect.", 68 A0 (in) "Serial Port Address.", 69 A1 (in) "Serial Port Address.", 70 A2_~{SS} (in) "Serial Port Address/S\l\a\v\e\ \S\e\l\e\c\t\", 71 SDI (in) "Serial Data In.", 72 NC "No Connect.", 73 NC "No Connect.", 74 NC "No Connect.", 75 NC "No Connect.", 76 VDD (power), 77 CKOUT3+ (out) "Clock Output 3.", 78 CKOUT3- (out) "Clock Output 3.", 79 VDD (power) "VDD.", 80 NC "No Connect.", 81 VDD (power) "VDD.", 82 CKOUT1- (out) "Clock Output 1.", 83 CKOUT1+ (out) "Clock Output 1.", 84 VDD (power) "VDD.", 85 NC "No Connect.", 86 VDD (power), 87 FS_OUT- (out) "Frame Sync Output.", 88 FS_OUT+ (out) "Frame Sync Output.", 89 VDD (power) "VDD.", 90 CMODE (in) "Control Mode", 91 VDD (power), 92 CKOUT2+ (out) "Clock Output 2.", 93 CKOUT2- (out) "Clock Output 2.", 94 VDD (power) "VDD.", 95 NC "No Connect.", 96 VDD (power) "VDD.", 97 CKOUT4- (out) "Clock Output 4.", 98 CKOUT4+ (out) "Clock Output 4.", 99 VDD (power) "VDD.", 100 VDD (power) "VDD.", 101 EP (power) "Ground Pad"

## Si53340
designator IC?
Low-Jitter LVDS Fanout Clock Buffers, 10-Output,  Any-Input, Any-Frequency up to 1250MHz
pins: 1 GND (power), 2 CLK_SEL (in), 3 CLK1 (in), 4 ~{CLK1} (in), 5 VDD (power), 6 CLK0 (in), 7 ~{CLK0} (in), 9 Q0 (out), 10 ~{Q0} (out), 11 Q1 (out), 12 ~{Q1} (out), 13 Q2 (out), 14 ~{Q2} (out), 15 Q3 (out), 16 ~{Q3} (out), 17 GND (power)

## SN75LBC184
designator IC?
Differential Transceiver with Transient Voltage Suppression
pins: 1 R (out), 2 ~{RE} (in), 3 DE (in), 4 D (in), 5 GND (power), 6 A (io), 7 B (io), 8 VCC (power)

## SST39VF6401B-70-4C-EKE
designator IC?
4M x 16 (64 Mbit), 2.7V Multi-Purpose Flash Plus
pins: 1 A15 (in), 2 A14 (in), 3 A13 (in), 4 A12 (in), 5 A11 (in), 6 A10 (in), 7 A9 (in), 8 A8 (in), 9 A19 (in), 10 A20 (in), 11 ~{WE} (in), 12 ~{RST} (in), 13 A21 (in), 14 ~{WP} (in), 15 NC (in), 16 A18, 17 A17 (in), 18 A7 (in), 19 A6 (in), 20 A5 (in), 21 A4 (in), 22 A3 (in), 23 A2 (in), 24 A1 (in), 25 A0 (in), 26 ~{CE} (in), 27 VSS (power), 28 ~{OE} (in), 29 DQ0 (io), 30 DQ8 (io), 31 DQ1 (io), 32 DQ9 (io), 33 DQ2 (io), 34 DQ10 (io), 35 DQ3 (io), 36 DQ11 (io), 37 VDD (power), 38 DQ4 (io), 39 DQ12 (io), 40 DQ5 (io), 41 DQ13 (io), 42 DQ6 (io), 43 DQ14 (io), 44 DQ7 (io), 45 DQ15 (io), 46 VSS (power), 47 NC, 48 A16 (in)

## STM32F103CBT6
designator IC?
ARM Cortex-M3 32-bit MCU, 128 KB Flash, 20 KB Internal RAM, 37 I/Os, 48-pin LQFP, Industrial Grade
part A pins: 2 PC13-TAMPER-RTC (io) "PC13-TAMPER-RTC/PC13/TAMPER-RTC", 3 PC14-OSC32_IN (io) "PC14-OSC32_IN/PC14/OSC32_IN", 4 PC15-OSC32_OUT (io) "PC15-OSC32_OUT/PC15/OSC32_OUT", 5 PD0-OSC_IN (io) "PD0/OSC_IN", 6 PD1-OSC_OUT (io) "PD1/OSC_OUT", 7 NRST (io), 10 PA0-WKUP (io) "PA0-WKUP/PA0/WKUP/USART2_CTS/ADC12_IN0/TIM2_CH1_ETR", 11 PA1 (io) "PA1/USART2_RTS/ADC12_IN1/TIM2_CH2", 12 PA2 (io) "PA2/USART2_TX/ADC12_IN2/TIM2_CH3", 13 PA3 (io) "PA3/USART2_RX/ADC12_IN3/TIM2_CH4", 14 PA4 (io) "PA4/SPI1_NSS/USART2_CK/ADC12_IN4", 15 PA5 (io) "PA5/SPI1_SCK/ADC12_IN5", 16 PA6 (io) "PA6/SPI1_MISO/ADC12_IN6/TIM3_CH1/TIM1_BKIN", 17 PA7 (io) "PA7/SPI1_MOSI/ADC12_IN7/TIM3_CH2/TIM1_CH1N", 18 PB0 (io) "PB0/ADC12_IN8/TIM3_CH3/TIM1_CH2N", 19 PB1 (io) "PB1/ADC12_IN9/TIM3_CH4/TIM1_CH3N", 20 PB2 (io) "PB2/BOOT1", 21 PB10 (io) "PB10/I2C2_SCL/USART3_TX/TIM2_CH3", 22 PB11 (io) "PB11/I2C2_SDA/USART3_RX/TIM2_CH4", 25 PB12 (io) "PB12/SPI2_NSS/I2C2_SMBAl/USART3_CK/TIM1_BKIN", 26 PB13 (io) "PB13/SPI2_SCK/USART3_CTS/TIM1_CH1N", 27 PB14 (io) "PB14/SPI2_MISO/USART3_RTS/TIM1_CH2N", 28 PB15 (io) "PB15/SPI2_MOSI/TIM1_CH3N", 29 PA8 (io) "PA8/USART1_CK/TIM1_CH1/MCO", 30 PA9 (io) "PA9/USART1_TX/TIM1_CH2", 31 PA10 (io) "PA10/USART1_RX/TIM1_CH3", 32 PA11 (io) "PA11/USART1_CTS/CANRX/USBDM/TIM1_CH4", 33 PA12 (io) "PA12/USART1_RTS/CANTX/USBDP/TIM1_ETR", 34 PA13 (io) "PA13/JTMS/SWDIO", 37 PA14 (io) "PA14/JTCK/SWCLK", 38 PA15 (io) "PA15/JTDI/TIM2_CH1_ETR/SPI1_NSS", 39 PB3 (io) "PB3/JTDO/TIM2_CH2/TRACESWO/SPI1_SCK", 40 PB4 (io) "PB4/NJTRST/TIM3_CH1/SPI1_MISO", 41 PB5 (io) "PB5/I2C1_SMBAI/TIM3_CH2/SPI1_MOSI", 42 PB6 (io) "PB6/I2C1_SCL/TIM4_CH1/USART1_TX", 43 PB7 (io) "PB7/I2C1_SDA/TIM4_CH2/USART1_RX", 44 BOOT0 (in), 45 PB8 (io) "PB8/TIM4_CH3/I2C1_SCL/CANRX", 46 PB9 (io) "PB9/TIM4_CH4/I2C1_SDA/CANTX"
part B pins: 1 VBAT (power), 8 VSSA (power), 9 VDDA (power), 23 VSS_1 (power), 24 VDD_1 (power), 35 VSS_2 (power), 36 VDD_2 (power), 47 VSS_3 (power), 48 VDD_3 (power)

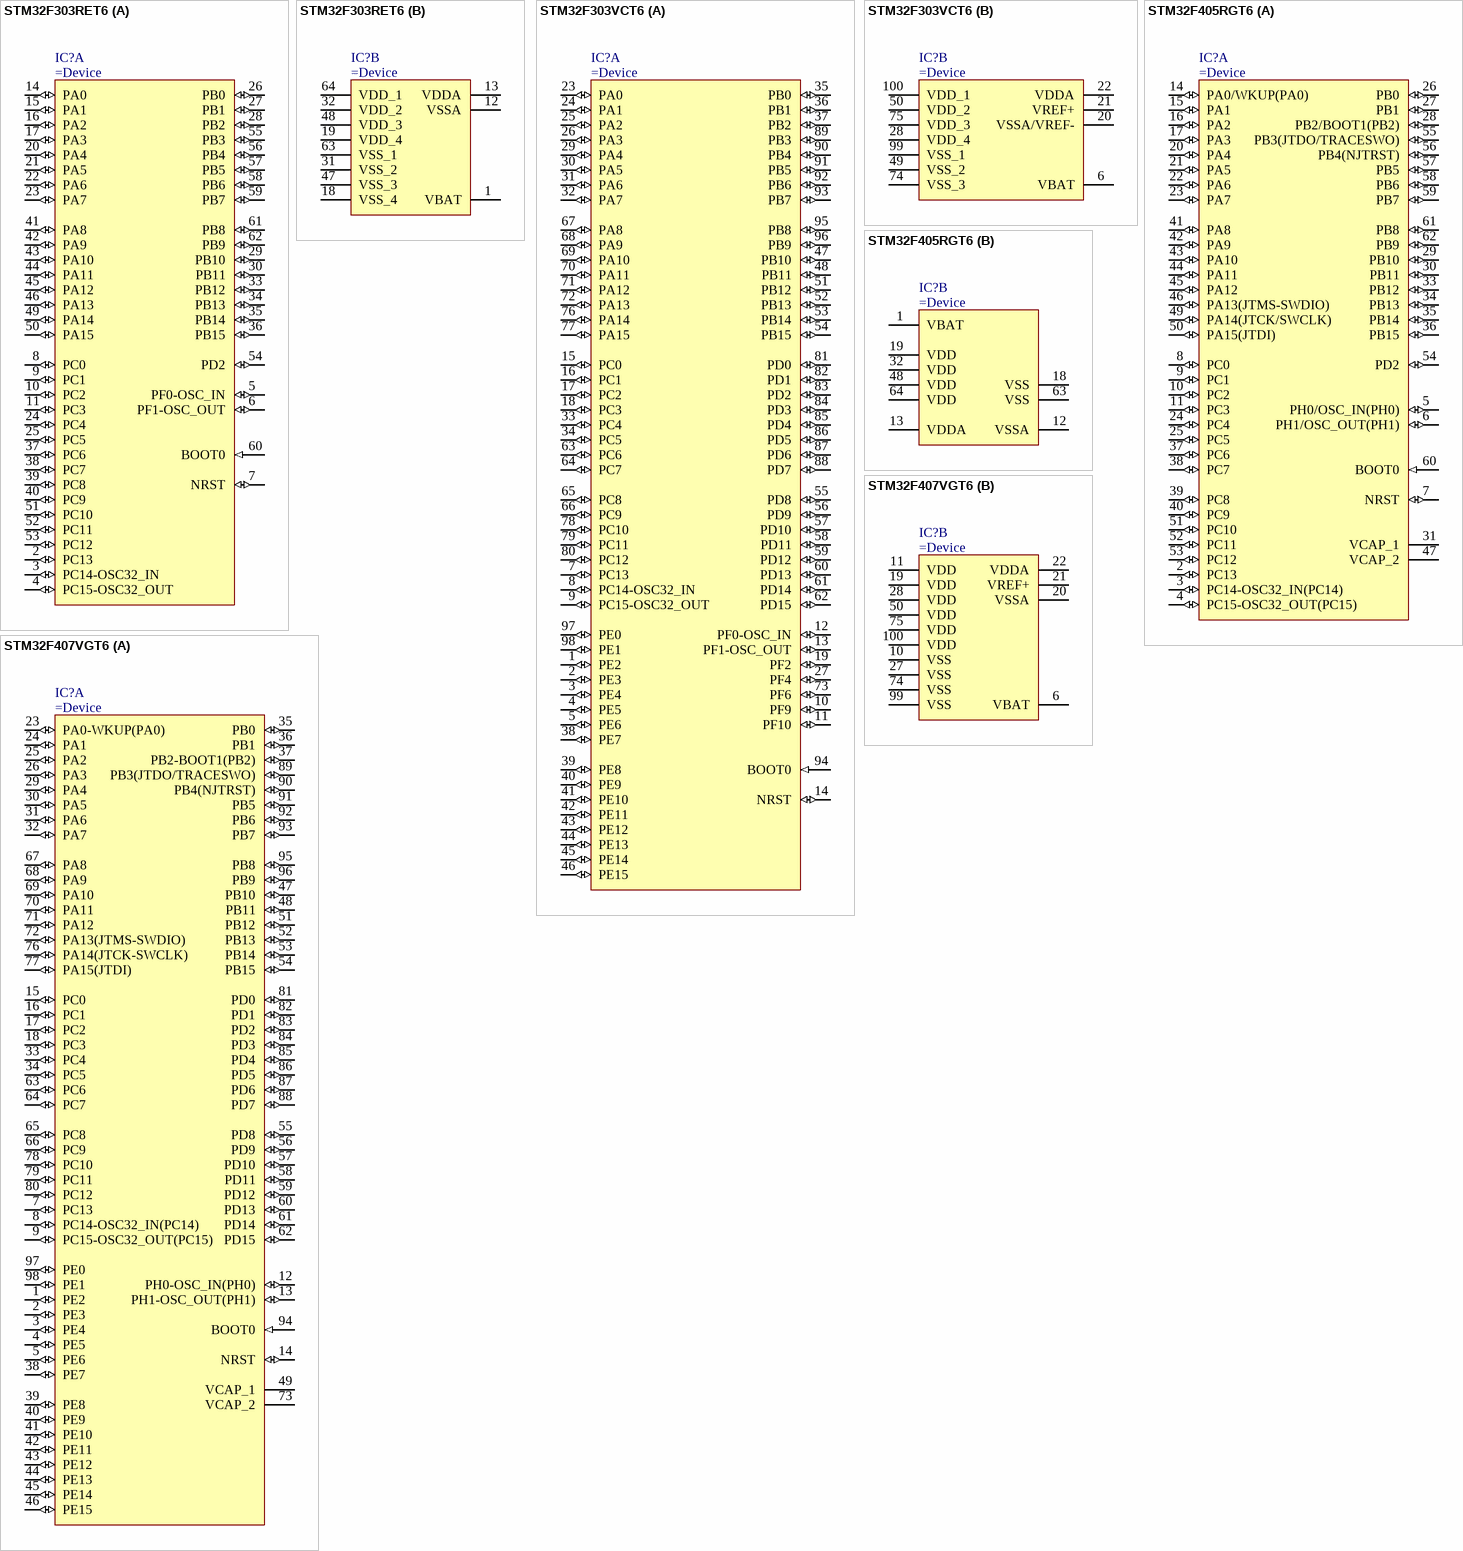
[diagram p120: symbols STM32F303RET6 to STM32F407VGT6]

## STM32F303RET6
designator IC?
ARM Cortex-M4 32-bit MCU, 512 KB Flash, 80 KB Internal RAM, 52 I/Os, 64-pin LQFP, Industrial Grade
part A pins: 2 PC13 (io), 3 PC14-OSC32_IN (io), 4 PC15-OSC32_OUT (io), 5 PF0-OSC_IN (io), 6 PF1-OSC_OUT (io), 7 NRST (io), 8 PC0 (io), 9 PC1 (io), 10 PC2 (io), 11 PC3 (io), 14 PA0 (io), 15 PA1 (io), 16 PA2 (io), 17 PA3 (io), 20 PA4 (io), 21 PA5 (io), 22 PA6 (io), 23 PA7 (io), 24 PC4 (io), 25 PC5 (io), 26 PB0 (io), 27 PB1 (io), 28 PB2 (io), 29 PB10 (io), 30 PB11 (io), 33 PB12 (io), 34 PB13 (io), 35 PB14 (io), 36 PB15 (io), 37 PC6 (io), 38 PC7 (io), 39 PC8 (io), 40 PC9 (io), 41 PA8 (io), 42 PA9 (io), 43 PA10 (io), 44 PA11 (io), 45 PA12 (io), 46 PA13 (io), 49 PA14 (io), 50 PA15 (io), 51 PC10 (io), 52 PC11 (io), 53 PC12 (io), 54 PD2 (io), 55 PB3 (io), 56 PB4 (io), 57 PB5 (io), 58 PB6 (io), 59 PB7 (io), 60 BOOT0 (in), 61 PB8 (io), 62 PB9 (io)
part B pins: 1 VBAT (power), 12 VSSA (power), 13 VDDA (power), 18 VSS_4 (power), 19 VDD_4 (power), 31 VSS_2 (power), 32 VDD_2 (power), 47 VSS_3 (power), 48 VDD_3 (power), 63 VSS_1 (power), 64 VDD_1 (power)